# Altium schematic symbol library CHIP-Library.SCHLIB: 393 symbols (part 1 of 4)
Pins are listed as number, name and electrical type; pins without a type are passive.

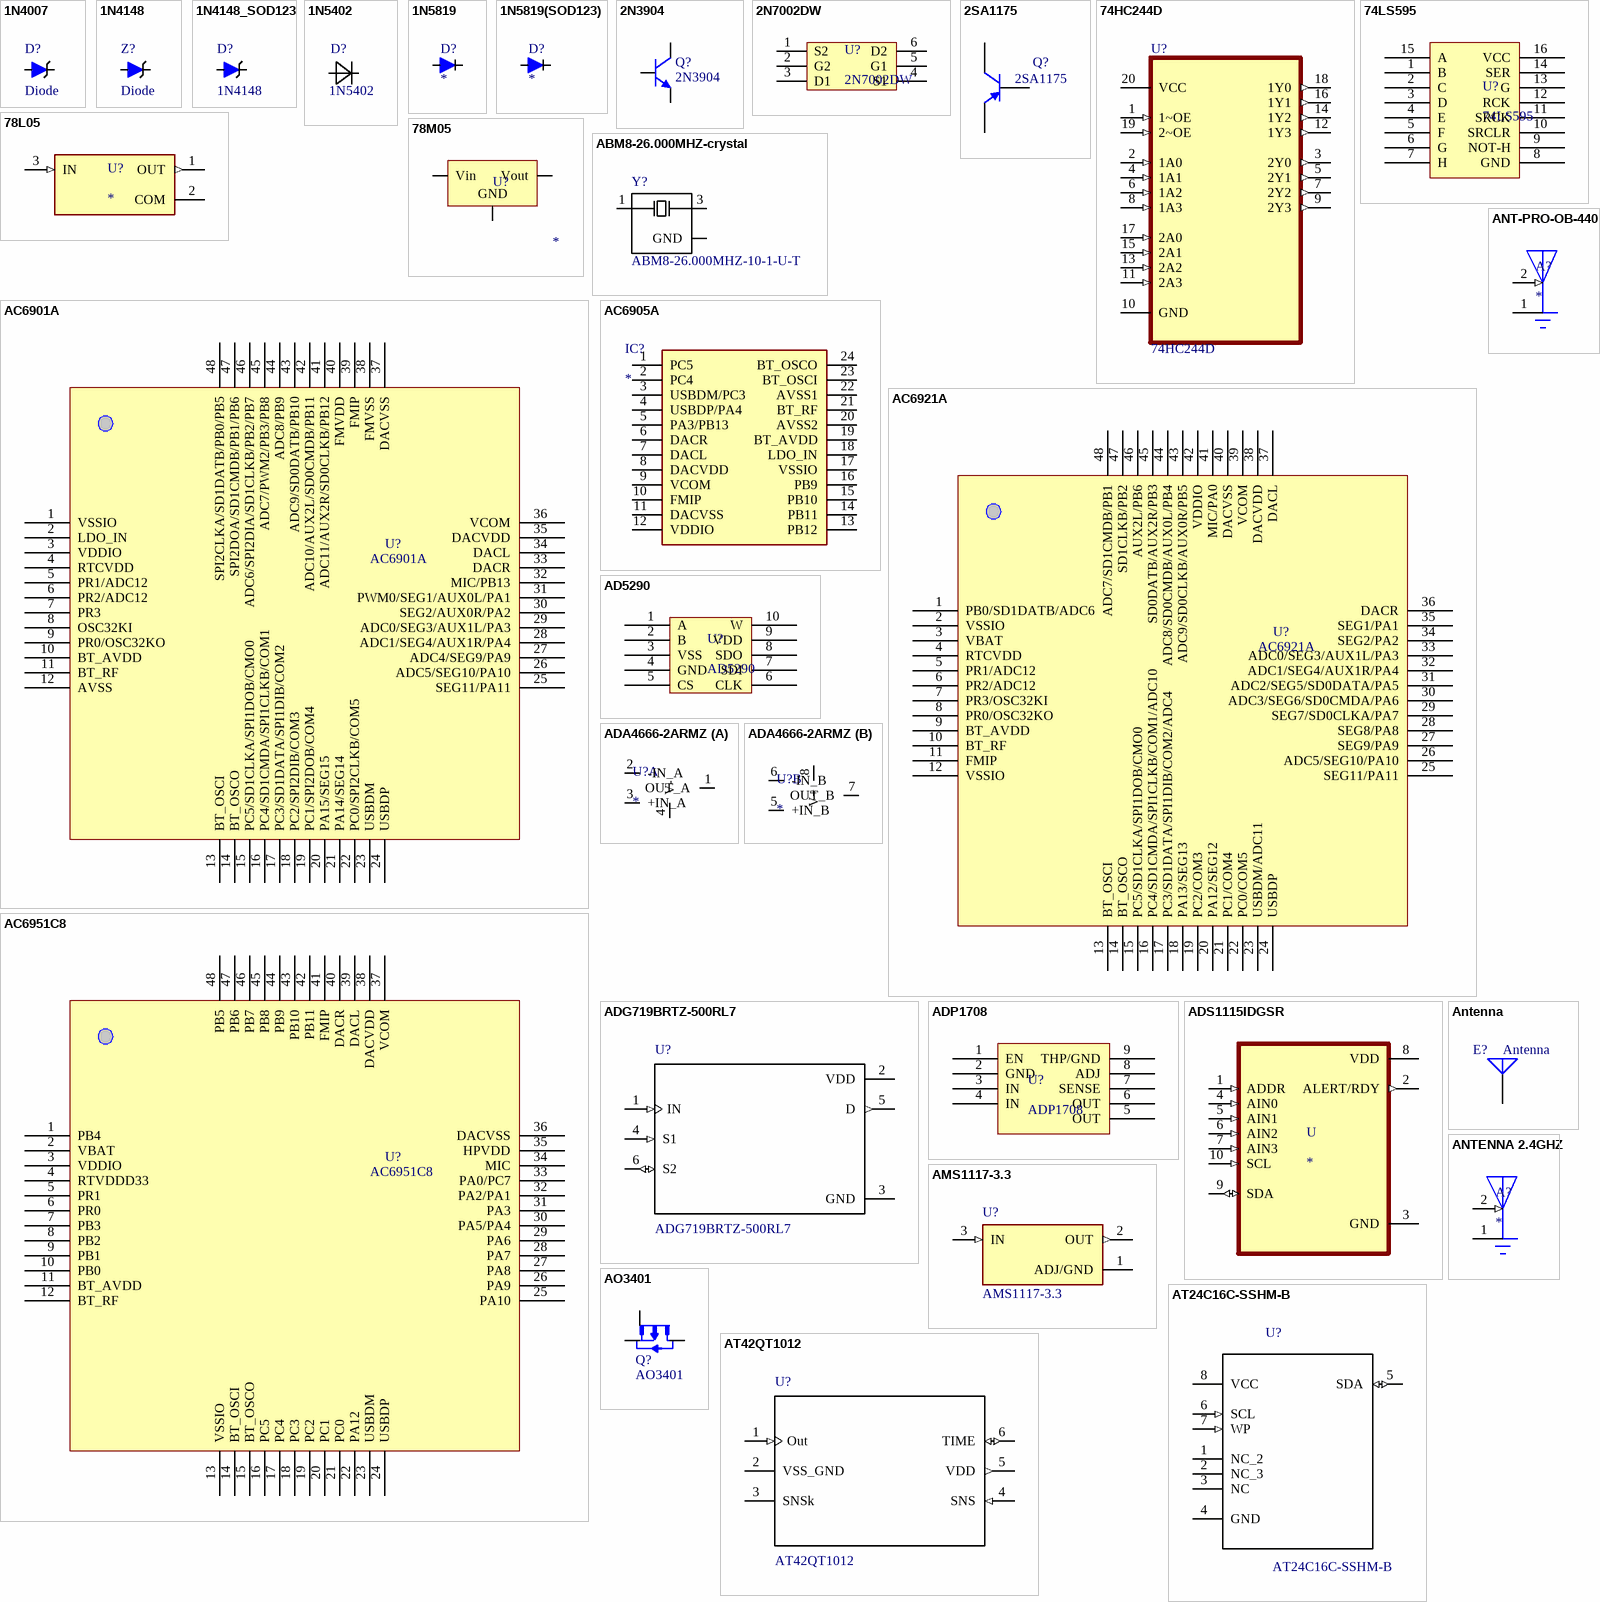
[diagram p0: symbols 1N4007 to AT42QT1012]

## 1N4007
designator D?, comment Diode
1N4007 DO-214AC; MP: EDZV12B; MF: ROHM Semiconductor; Price: None; Package: None; SnapEDA_Link: https://www.snapeda.com/parts/EDZV12B/EMI/view-part/4479349/?ref=snap; Availability: Unavailable; Value: *
footprint 1N4148
pins: 1 A, 2 C

## 1N4148
designator Z?, comment Diode
MP: EDZV12B; MF: ROHM Semiconductor; Price: None; Package: None; SnapEDA_Link: https://www.snapeda.com/parts/EDZV12B/EMI/view-part/4479349/?ref=snap; Availability: Unavailable; Value: *
footprint 1N4148
pins: 1 A, 2 C

## 1N4148_SOD123
designator D?, comment 1N4148
SOD-123 Package; MP: EDZV12B; MF: ROHM Semiconductor; Price: None; Package: None; SnapEDA_Link: https://www.snapeda.com/parts/EDZV12B/EMI/view-part/4479349/?ref=snap; Availability: Unavailable; Value: *
footprint 1N4148 SOD-123
pins: 1 A, 2 C

## 1N5402
designator D?
SnapEDA_Link: https://www.snapeda.com/parts/1N5402/NTE+Electronics/view-part/?ref=snap; Check_prices: https://www.snapeda.com/parts/1N5402/NTE+Electronics/view-part/?ref=eda; Value: *
pins: A, C

## 1N5819
designator D?
Shotkey diod SOD-523; MP: BAS716; MF: Nexperia USA; SnapEDA_Link: https://www.snapeda.com/parts/BAS716/Nexperia%20USA%20Inc./view-part/143287/?ref=snap; Price: None; Package: SOD-523 NXP Semiconductors; Arrow_Electronics-Purchase-URL: https://snapeda.com/shop?store=Arrow+Electronics&id=143287; Value: *; Availability: Unavailable
footprint 1N5819_SOD523
pins: 1 A, 2 C

## 1N5819(SOD123)
designator D?
Shotkey diod SOD-123; MP: BAS716; MF: Nexperia USA; SnapEDA_Link: https://www.snapeda.com/parts/BAS716/Nexperia%20USA%20Inc./view-part/143287/?ref=snap; Price: None; Package: SOD-523 NXP Semiconductors; Arrow_Electronics-Purchase-URL: https://snapeda.com/shop?store=Arrow+Electronics&id=143287; Value: *; Availability: Unavailable
footprint 1N5819 SOD-123
pins: 1 A, 2 C

## 2N3904
designator Q?
NPN General Purpose Amplifier; Published: 8-Jun-2000; LatestRevisionDate: 15-Jan-2003; LatestRevisionNote: PCB Footprint 'BCY-W3/D4.7' replaced; DatasheetVersion: 1997; PackageVersion: Sep-1998; PackageReference: TO-92A; Publisher: Altium Limited; PackageDescription: TO, Flat Index; 3 In-Line, Axial Leads; Body Dia. 4.5mm; Leads 0.51 x 0.48 mm (max); ComponentLink1Description: Manufacturer Link; ComponentLink1URL: http://www.fairchildsemi.com/; ComponentLink2Description: Datasheet; ComponentLink2URL: http://www.fairchildsemi.com/ds/2N%2F2N3904.pdf
footprint 2N3904 (BJT TRANSISTOR SOT23, 3 pin)
pins: 1 B, 2 E, 3 C

## 2N7002DW
designator U?
DUAL N-CHANNEL ENHANCEMENT MODE MOSFET
footprint 2N7002DW (SOT363)
pins: 1 S2, 2 G2, 3 D1, 4 S1, 5 G1, 6 D2

## 2SA1175
designator Q?
PNP General Purpose Amplifier; Published: 8-Jun-2000; LatestRevisionDate: 15-Jan-2003; LatestRevisionNote: PCB Footprint 'BCY-W3/D4.7' replaced; DatasheetVersion: 1997; PackageVersion: Sep-1998; PackageReference: TO-92A; Publisher: Altium Limited; PackageDescription: TO, Flat Index; 3 In-Line, Axial Leads; Body Dia. 4.5mm; Leads 0.51 x 0.48 mm (max); ComponentLink1Description: Manufacturer Link; ComponentLink1URL: http://www.fairchildsemi.com/; ComponentLink2Description: Datasheet; ComponentLink2URL: http://www.fairchildsemi.com/ds/2N%2F2N3906.pdf
simulation model 2N3906 (PNP)
signal-integrity model 2N3906
footprint 2SA1175 (TO, Flat Index; 3 In-Line, Axial Leads; Body Dia. 4.5mm; Leads 0.51 x 0.48 mm (max))
pins: 1 E, 2 B, 3 C

## 74HC244D
designator U?
Octal buffer/line driver 3-state; MF: {'manufacturer': u'Nexperia USA'}; MP: 74HC244D,653; Value: *; Price: None; Package: None; Availability: Unavailable
footprint Model Name (Footprint not found)
footprint 74HC244D (Octal buffer/line driver - SO20 Package)
pins: 1 1~OE (in), 2 1A0 (in), 3 2Y0 (out), 4 1A1 (in), 5 2Y1 (out), 6 1A2 (in), 7 2Y2 (out), 8 1A3 (in), 9 2Y3 (out), 10 GND, 11 2A3 (in), 12 1Y3 (out), 13 2A2 (in), 14 1Y2 (out), 15 2A1 (in), 16 1Y1 (out), 17 2A0 (in), 18 1Y0 (out), 19 2~OE (in), 20 VCC (power)

## 74LS595
designator U?
footprint D016_N (16-Pin Small Outline Integrated Circuit 1.27 mm Pitch, IPC Medium Density)
footprint J016D (DIP; 16 Leads; Row Spacing 7.62 mm; Pitch 2.54 mm)
pins: 1 B, 2 C, 3 D, 4 E, 5 F, 6 G, 7 H, 8 GND, 9 NOT-H, 10 SRCLR, 11 SRCK, 12 RCK, 13 G, 14 SER, 15 A, 16 VCC

## 78L05
designator U?
Linear Voltage Regulator IC 1 Output 100mA SOT-89-3; MP: UA78L05CPK; MF: Texas Instruments; Availability: Unavailable; Package: SOT-89-3 Texas Instruments; SnapEDA_Link: https://www.snapeda.com/parts/UA78L05CPK/Texas%20Instruments/view-part/512891/?ref=snap; Value: *; Price: None
footprint 78L05
pins: 1 OUT (out), 2 COM (power), 3 IN (in)

## 78M05
designator U?
Voltage Regulator L7805 DPAK; Published: 24-Mar-1999; LatestRevisionDate: 29-May-2009; LatestRevisionNote: IPC-7351 Footprint Added.; PackageReference: D2PAK; Publisher: Altium Limited; PackageDescription: 3-Pin Transistor Outline Package 2.54 mm Pitch, 15.1 mm Lead Span
footprint 78M05 (D-PAK)
pins: 1 Vin, 2 GND, 3 Vout

## ABM8-26.000MHZ-crystal
designator Y?, comment ABM8-26.000MHZ-10-1-U-T
26MHz Â±10ppm Crystal 10pF 50 Ohms 4-SMD, No Lead; MF: Abracon; Digi-Key_Part_Number: 300-8230-1-ND; SnapEDA_Link: https://www.snapeda.com/parts/ABM8-26.000MHZ-10-1-U-T/Abracon%20LLC/view-part/356267/?ref=snap; Digi-Key_Purchase_URL: https://www.digikey.com/product-detail/en/abracon-llc/ABM8-26.000MHZ-10-1-U-T/300-8230-1-ND/687923?utm_source=snapeda&utm_medium=aggregator&utm_campaign=symbol; MP: ABM8-26.000MHZ-10-1-U-T; Package: SMD-4 Abracon; Value: *
footprint *OSCSC320X250X100N
pins: 1, 2 GND (power), 3, 4 GND (power)

## AC6901A
designator U?
footprint AC6901a
pins: 1 VSSIO, 2 LDO_IN, 3 VDDIO, 4 RTCVDD, 5 PR1/ADC12, 6 PR2/ADC12, 7 PR3, 8 OSC32KI, 9 PR0/OSC32KO, 10 BT_AVDD, 11 BT_RF, 12 AVSS, 13 BT_OSCI, 14 BT_OSCO, 15 PC5/SD1CLKA/SPI1DOB/CMO0, 16 PC4/SD1CMDA/SPI1CLKB/COM1, 17 PC3/SD1DATA/SPI1DIB/COM2, 18 PC2/SPI2DIB/COM3, 19 PC1/SPI2DOB/COM4, 20 PA15/SEG15, 21 PA14/SEG14, 22 PC0/SPI2CLKB/COM5, 23 USBDM, 24 USBDP, 25 SEG11/PA11, 26 ADC5/SEG10/PA10, 27 ADC4/SEG9/PA9, 28 ADC1/SEG4/AUX1R/PA4, 29 ADC0/SEG3/AUX1L/PA3, 30 SEG2/AUX0R/PA2, 31 PWM0/SEG1/AUX0L/PA1, 32 MIC/PB13, 33 DACR, 34 DACL, 35 DACVDD, 36 VCOM, 37 DACVSS, 38 FMVSS, 39 FMIP, 40 FMVDD, 41 ADC11/AUX2R/SD0CLKB/PB12, 42 ADC10/AUX2L/SD0CMDB/PB11, 43 ADC9/SD0DATB/PB10, 44 ADC8/PB9, 45 ADC7/PWM2/PB3/PB8, 46 ADC6/SPI2DIA/SD1CLKB/PB2/PB7, 47 SPI2DOA/SD1CMDB/PB1/PB6, 48 SPI2CLKA/SD1DATB/PB0/PB5

## AC6905A
designator IC?
Integrated Circuit; Manufacturer_Name: JIELI; Manufacturer_Part_Number: AC6905A; Datasheet Link: http://img005.hc360.cn/k1/M09/34/E3/wKhQwFmw58KEPsWjAAAAAJGE4z0447.pdf; Height: 1.8mm
footprint AC6905
pins: 1 PC5, 2 PC4, 3 USBDM/PC3, 4 USBDP/PA4, 5 PA3/PB13, 6 DACR, 7 DACL, 8 DACVDD, 9 VCOM, 10 FMIP, 11 DACVSS, 12 VDDIO, 13 PB12, 14 PB11, 15 PB10, 16 PB9, 17 VSSIO, 18 LDO_IN, 19 BT_AVDD, 20 AVSS2, 21 BT_RF, 22 AVSS1, 23 BT_OSCI, 24 BT_OSCO

## AC6921A
designator U?
footprint AC6921a
pins: 1 PB0/SD1DATB/ADC6, 2 VSSIO, 3 VBAT, 4 RTCVDD, 5 PR1/ADC12, 6 PR2/ADC12, 7 PR3/OSC32KI, 8 PR0/OSC32KO, 9 BT_AVDD, 10 BT_RF, 11 FMIP, 12 VSSIO, 13 BT_OSCI, 14 BT_OSCO, 15 PC5/SD1CLKA/SPI1DOB/CMO0, 16 PC4/SD1CMDA/SPI1CLKB/COM1/ADC10, 17 PC3/SD1DATA/SPI1DIB/COM2/ADC4, 18 PA13/SEG13, 19 PC2/COM3, 20 PA12/SEG12, 21 PC1/COM4, 22 PC0/COM5, 23 USBDM/ADC11, 24 USBDP, 25 SEG11/PA11, 26 ADC5/SEG10/PA10, 27 SEG9/PA9, 28 SEG8/PA8, 29 SEG7/SD0CLKA/PA7, 30 ADC3/SEG6/SD0CMDA/PA6, 31 ADC2/SEG5/SD0DATA/PA5, 32 ADC1/SEG4/AUX1R/PA4, 33 ADC0/SEG3/AUX1L/PA3, 34 SEG2/PA2, 35 SEG1/PA1, 36 DACR, 37 DACL, 38 DACVDD, 39 VCOM, 40 DACVSS, 41 MIC/PA0, 42 VDDIO, 43 ADC9/SD0CLKB/AUX0R/PB5, 44 ADC8/SD0CMDB/AUX0L/PB4, 45 SD0DATB/AUX2R/PB3, 46 AUX2L/PB6, 47 SD1CLKB/PB2, 48 ADC7/SD1CMDB/PB1

## AC6951C8
designator U?
footprint AC6951C8 (LQFP48)
pins: 1 PB4, 2 VBAT, 3 VDDIO, 4 RTVDDD33, 5 PR1, 6 PR0, 7 PB3, 8 PB2, 9 PB1, 10 PB0, 11 BT_AVDD, 12 BT_RF, 13 VSSIO, 14 BT_OSCI, 15 BT_OSCO, 16 PC5, 17 PC4, 18 PC3, 19 PC2, 20 PC1, 21 PC0, 22 PA12, 23 USBDM, 24 USBDP, 25 PA10, 26 PA9, 27 PA8, 28 PA7, 29 PA6, 30 PA5/PA4, 31 PA3, 32 PA2/PA1, 33 PA0/PC7, 34 MIC, 35 HPVDD, 36 DACVSS, 37 VCOM, 38 DACVDD, 39 DACL, 40 DACR, 41 FMIP, 42 PB11, 43 PB10, 44 PB9, 45 PB8, 46 PB7, 47 PB6, 48 PB5

## AD5290
designator U?
Digital Potentiometer
footprint MSOP10 (MSOP 10 pitch 0.5mm)
pins: 1 A, 2 B, 3 VSS, 4 GND, 5 CS, 6 CLK, 7 SDI, 8 SDO, 9 VDD, 10 W

## ADA4666-2ARMZ
designator U?
Integrated Circuit; Manufacturer_Name: Analog Devices; Manufacturer_Part_Number: ADA4666-2ARMZ; Datasheet Link: https://docs-emea.rs-online.com/webdocs/1284/0900766b81284aba.pdf; Height: 1.1mm; Arrow Part Number: ADA4666-2ARMZ; Arrow Price/Stock: https://www.arrow.com/en/products/ada4666-2armz/analog-devices; Mouser Part Number: 584-ADA4666-2ARMZ; Mouser Price/Stock: https://www.mouser.com/Search/Refine.aspx?Keyword=584-ADA4666-2ARMZ
footprint ADA4666-2ARMZ
part A pins: 1 OUT_A, 2 -IN_A, 3 +IN_A, 4 V- (power)
part B pins: 5 +IN_B, 6 -IN_B, 7 OUT_B, 8 V+

## ADG719BRTZ-500RL7
designator U?
Analogue Switch, SPDT, 1, 4 ohm, 1.8V to 5.5V, SOT-23, 6; MF: Analog Devices; Package: SOT-23-6 Analog Devices; Availability: Unavailable; MP: ADG719BRTZ-500RL7; Price: None; SnapEDA_Link: https://www.snapeda.com/parts/ADG719BRTZ-500RL7/Analog%20Devices%20Inc./view-part/?ref=snap; Value: *
footprint ADG719
pins: 1 IN (in), 2 VDD (power), 3 GND (power), 4 S1 (in), 5 D (out), 6 S2 (io)

## ADP1708
designator U?
1 A, Low Dropout,  CMOS Linear Regulator
footprint SOIC 8 - THPAD (8-Pin Small Outline Integrated Circuit 1.27 mm Pitch, IPC Medium Density)
pins: 1 EN, 2 GND, 3 IN, 4 IN, 5 OUT, 6 OUT, 7 SENSE, 8 ADJ, 9 THP/GND

## ADS1115IDGSR
designator U
16-Bit 860SPS 4-Ch Delta-Sigma ADC With PGA, Oscillator, Vref, Comparator, and I2C 10-VSSOP -40 to 125; MF: Texas Instruments; MP: ADS1115IDGSR; SnapEDA_Link: https://www.snapeda.com/parts/ADS1115IDGSR/Texas%20Instruments/view-part/45903/?ref=snap; Value: *; Texas_Instruments-Purchase-URL: https://snapeda.com/shop?store=Texas+Instruments&id=45903; Price: None; Availability: Good; Mouser-Purchase-URL: https://snapeda.com/shop?store=Mouser&id=45903; Package: VSSOP-10 Texas Instruments; DigiKey-Purchase-URL: https://snapeda.com/shop?store=DigiKey&id=45903
footprint ADS1115_S
pins: 1 ADDR (in), 2 ALERT/RDY (out), 3 GND (power), 4 AIN0 (in), 5 AIN1 (in), 6 AIN2 (in), 7 AIN3 (in), 8 VDD (power), 9 SDA (io), 10 SCL (in)

## AMS1117-3.3
designator U?
Sot223/Pkg 1-Amp 3.3-Volt Low Drop Out Voltage Regulatator; MF: Advanced Monolithic Systems; MP: AMS1117-3.3; SnapEDA_Link: https://www.snapeda.com/parts/AMS1117-3.3/Advanced%20Monolithic%20Systems/view-part/?ref=snap; Availability: Unavailable; Package: None; Price: None; Value: *
footprint AMS1117
pins: 1 ADJ/GND (power), 2 OUT (out), 3 IN (in)

## ANT-PRO-OB-440
designator A?
2.4GHz Bluetooth, WirelessHART, WLAN, Zigbeeâ„¢ Stamped Metal RF Antenna 2.4GHz ~ 2.5GHz Solder Surface Mount; MP: PRO-OB-440; MF: Proant AB; SnapEDA_Link: https://www.snapeda.com/parts/PRO-OB-440/Proant%20AB/view-part/2307534/?ref=snap; Digi-Key_Purchase_URL: https://www.digikey.com/product-detail/en/proant-ab/PRO-OB-440/1532-1001-1-ND/4895684?utm_source=snapeda&utm_medium=aggregator&utm_campaign=symbol; Value: *; Package: None; Digi-Key_Part_Number: 1532-1001-1-ND
footprint ANT_PRO-OB-440
pins: 1 GND (power), 2 FEED (in)

## Antenna
designator E?
Generic Antenna; Published: 24-Mar-1999; LatestRevisionDate: 17-Jul-2002; LatestRevisionNote: Re-released for DXP Platform.; PackageReference: PIN1; Publisher: Altium Limited
footprint Antenna
pins: 1 A

## ANTENNA 2.4GHZ
designator A?
ESP32 ANTENNA; MP: PRO-OB-440; MF: Proant AB; SnapEDA_Link: https://www.snapeda.com/parts/PRO-OB-440/Proant%20AB/view-part/2307534/?ref=snap; Digi-Key_Purchase_URL: https://www.digikey.com/product-detail/en/proant-ab/PRO-OB-440/1532-1001-1-ND/4895684?utm_source=snapeda&utm_medium=aggregator&utm_campaign=symbol; Value: *; Package: None; Digi-Key_Part_Number: 1532-1001-1-ND
footprint ANTENNA 2.4GHZ (ESP32 ANTENNA)
footprint ANTENNA 2.4GHZ - TI (TI ANTENNA)
footprint ANTENNA 2.4GHZ - NXP (ESP32 ANTENNA)
footprint ANTENNA 2.4GHZ - NXP 2 (ESP32 ANTENNA)
pins: 1 GND (power), 2 FEED (in)

## AO3401
designator Q?
P-Channel 30V 4A _Ta_ 1.4W _Ta_ Surface Mount SOT-23-3; MF: Alpha & Omega Semiconductor; Value: *; MP: AO3401; SnapEDA_Link: https://www.snapeda.com/parts/AO3401/Alpha%20%26%20Omega%20Semiconductor/view-part/4592622/?ref=snap; Availability: Unavailable; Package: SOT-23-3 Alpha &amp; Omega Semiconductor; Price: None
footprint AO3401 (SOT23, 3 pin)
pins: 1 G, 2 S, 3 D

## AT24C16C-SSHM-B
designator U?
AT24C16C Series 16 Kb _2 K x 8_ 1.7 V I2C-Compatible Serial EEPROM - SOIC-8; MF: Microchip; Price: None; Package: SOIC-8 Microchip; Availability: Unavailable; SnapEDA_Link: https://www.snapeda.com/parts/AT24C16C-SSHM-B/Microchip/view-part/?ref=snap; MP: AT24C16C-SSHM-B; Value: *
footprint *SOIC127P600X175-8N
pins: 1 NC_2, 2 NC_3, 3 NC, 4 GND, 5 SDA (io), 6 SCL (in), 7 WP (in), 8 VCC (power)

## AT42QT1012
designator U?
capacitance touch sensor; MP: ADG719BRTZ-500RL7; MF: Analog Devices; Package: SOT-23-6 Analog Devices; Availability: Unavailable; Price: None; SnapEDA_Link: https://www.snapeda.com/parts/ADG719BRTZ-500RL7/Analog%20Devices%20Inc./view-part/?ref=snap; Value: *
footprint AT42QT1012
pins: 1 Out (in), 2 VSS_GND (power), 3 SNSk (power), 4 SNS (in), 5 VDD (out), 6 TIME (io)

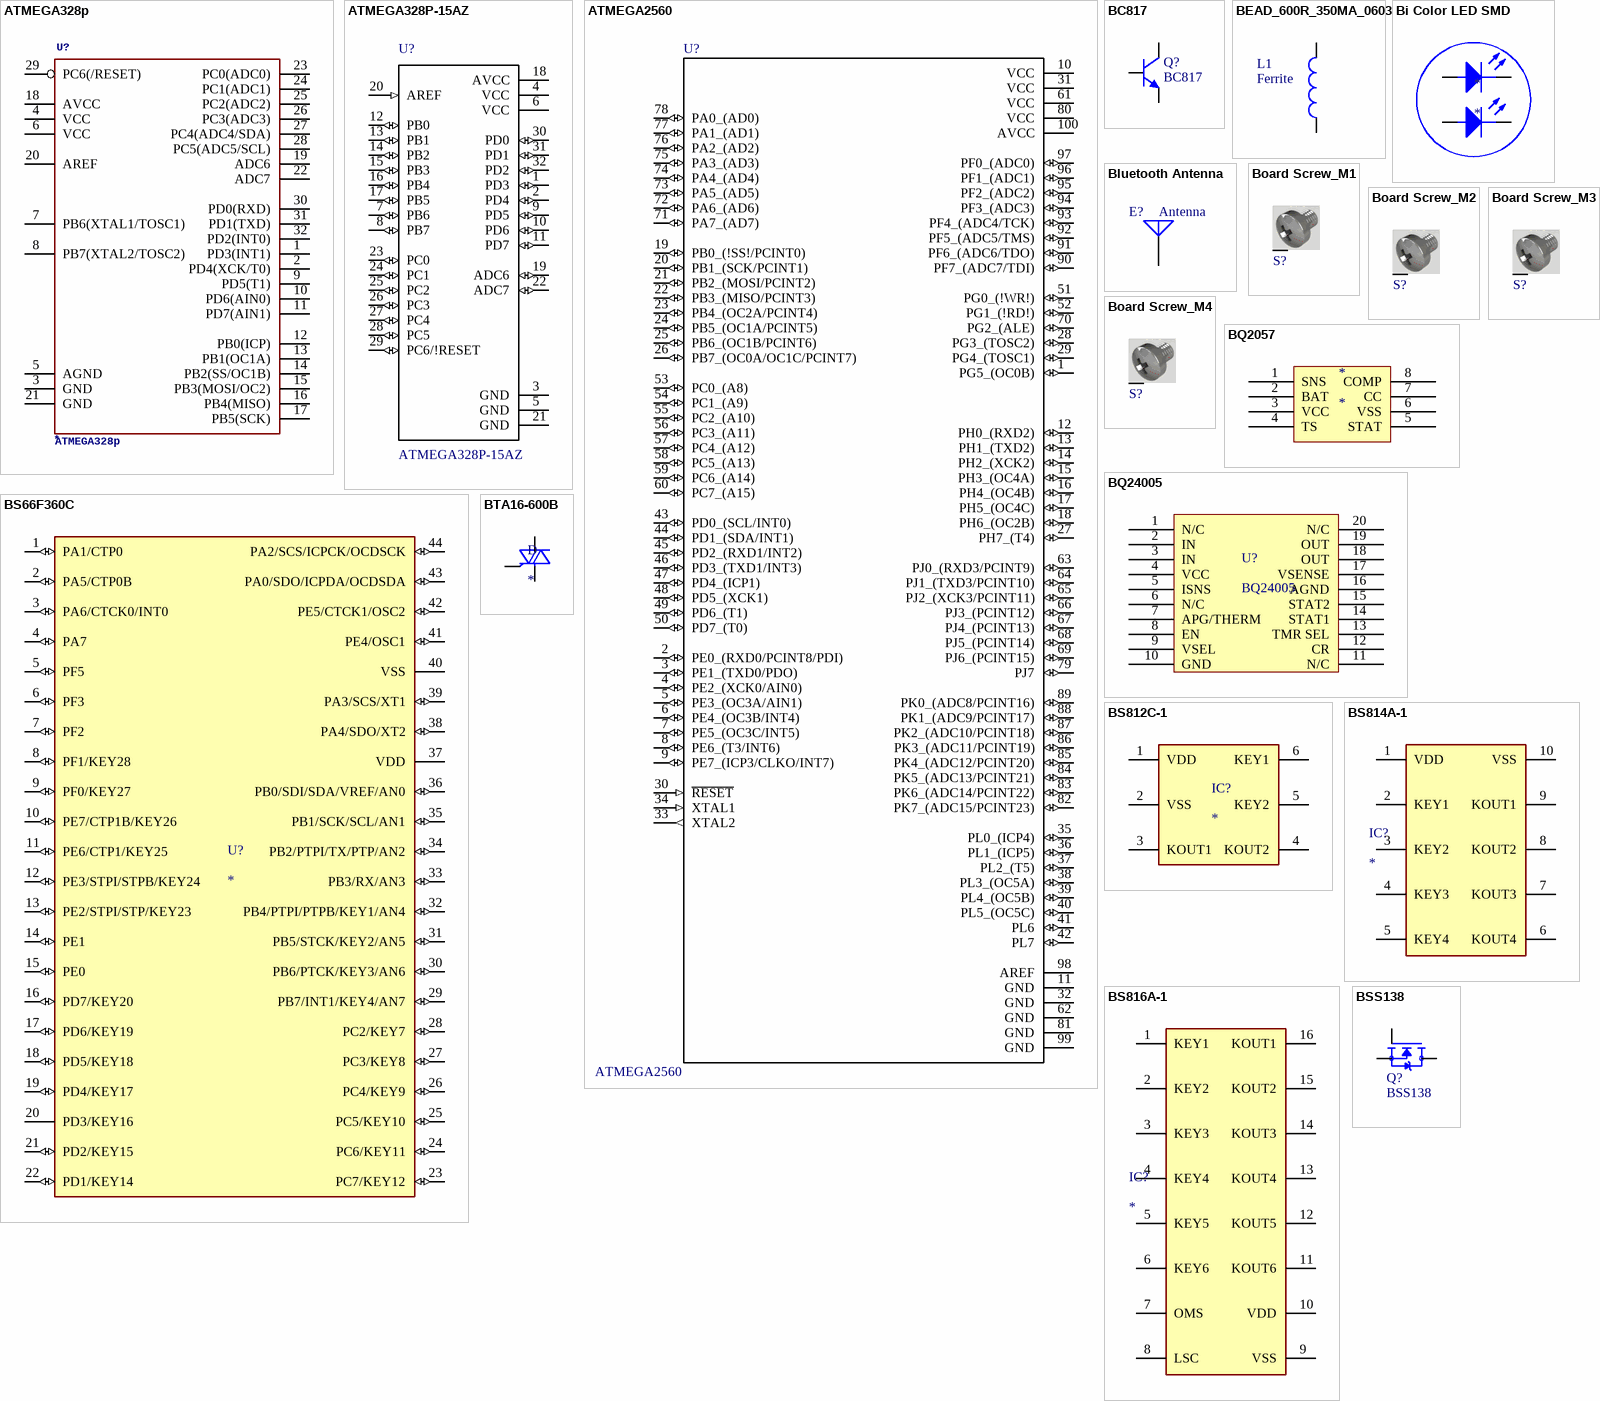
[diagram p1: symbols ATMEGA328p to BTA16-600B]

## ATMEGA328p
designator U?
NAME: *
footprint Atmega328p
pins: 1 PD3(INT1), 2 PD4(XCK/T0), 3 GND, 4 VCC, 5 AGND, 6 VCC, 7 PB6(XTAL1/TOSC1), 8 PB7(XTAL2/TOSC2), 9 PD5(T1), 10 PD6(AIN0), 11 PD7(AIN1), 12 PB0(ICP), 13 PB1(OC1A), 14 PB2(SS/OC1B), 15 PB3(MOSI/OC2), 16 PB4(MISO), 17 PB5(SCK), 18 AVCC, 19 ADC6, 20 AREF, 21 GND, 22 ADC7, 23 PC0(ADC0), 24 PC1(ADC1), 25 PC2(ADC2), 26 PC3(ADC3), 27 PC4(ADC4/SDA), 28 PC5(ADC5/SCL), 29 PC6(/RESET), 30 PD0(RXD), 31 PD1(TXD), 32 PD2(INT0)

## ATMEGA328P-15AZ
designator U?
MCU 8-bit ATmega AVR RISC 32KB Flash 3.3V/5V Automotive 32-Pin TQFP; MF: Microchip; SnapEDA_Link: https://www.snapeda.com/parts/ATMEGA328P-15AZ/Microchip/view-part/?ref=snap; Availability: Unavailable; Package: TQFP-32 Microchip; MP: ATMEGA328P-15AZ; Price: None; Value: *
footprint Atmega328p
pins: 1 PD3 (io), 2 PD4 (io), 3 GND (power), 4 VCC (power), 5 GND (power), 6 VCC (power), 7 PB6 (io), 8 PB7 (io), 9 PD5 (io), 10 PD6 (io), 11 PD7 (io), 12 PB0 (io), 13 PB1 (io), 14 PB2 (io), 15 PB3 (io), 16 PB4 (io), 17 PB5 (io), 18 AVCC (power), 19 ADC6 (io), 20 AREF (in), 21 GND (power), 22 ADC7 (io), 23 PC0 (io), 24 PC1 (io), 25 PC2 (io), 26 PC3 (io), 27 PC4 (io), 28 PC5 (io), 29 PC6/!RESET (io), 30 PD0 (io), 31 PD1 (io), 32 PD2 (io)

## ATMEGA2560
designator U?
Semiconductors and Actives, ic, Microprocessors, mcu, Microcontrollers; MF: Microchip; Price: None; SnapEDA_Link: https://www.snapeda.com/parts/ATMEGA2560/Microchip/view-part/?ref=snap; Availability: Unavailable; MP: ATMEGA2560; Package: TQFP-100 Microchip; Value: *
footprint Atmega2560
pins: 1 PG5_(OC0B) (io), 2 PE0_(RXD0/PCINT8/PDI) (io), 3 PE1_(TXD0/PDO) (io), 4 PE2_(XCK0/AIN0) (io), 5 PE3_(OC3A/AIN1) (io), 6 PE4_(OC3B/INT4) (io), 7 PE5_(OC3C/INT5) (io), 8 PE6_(T3/INT6) (io), 9 PE7_(ICP3/CLKO/INT7) (io), 10 VCC (power), 11 GND (power), 12 PH0_(RXD2) (io), 13 PH1_(TXD2) (io), 14 PH2_(XCK2) (io), 15 PH3_(OC4A) (io), 16 PH4_(OC4B) (io), 17 PH5_(OC4C) (io), 18 PH6_(OC2B) (io), 19 PB0_(!SS!/PCINT0) (io), 20 PB1_(SCK/PCINT1) (io), 21 PB2_(MOSI/PCINT2) (io), 22 PB3_(MISO/PCINT3) (io), 23 PB4_(OC2A/PCINT4) (io), 24 PB5_(OC1A/PCINT5) (io), 25 PB6_(OC1B/PCINT6) (io), 26 PB7_(OC0A/OC1C/PCINT7) (io), 27 PH7_(T4) (io), 28 PG3_(TOSC2) (io), 29 PG4_(TOSC1) (io), 30 ~{RESET} (in), 31 VCC (power), 32 GND (power), 33 XTAL2 (out), 34 XTAL1 (in), 35 PL0_(ICP4) (io), 36 PL1_(ICP5) (io), 37 PL2_(T5) (io), 38 PL3_(OC5A) (io), 39 PL4_(OC5B) (io), 40 PL5_(OC5C) (io), 41 PL6 (io), 42 PL7 (io), 43 PD0_(SCL/INT0) (io), 44 PD1_(SDA/INT1) (io), 45 PD2_(RXD1/INT2) (io), 46 PD3_(TXD1/INT3) (io), 47 PD4_(ICP1) (io), 48 PD5_(XCK1) (io), 49 PD6_(T1) (io), 50 PD7_(T0) (io), 51 PG0_(!WR!) (io), 52 PG1_(!RD!) (io), 53 PC0_(A8) (io), 54 PC1_(A9) (io), 55 PC2_(A10) (io), 56 PC3_(A11) (io), 57 PC4_(A12) (io), 58 PC5_(A13) (io), 59 PC6_(A14) (io), 60 PC7_(A15) (io), 61 VCC (power), 62 GND (power), 63 PJ0_(RXD3/PCINT9) (io), 64 PJ1_(TXD3/PCINT10) (io), 65 PJ2_(XCK3/PCINT11) (io), 66 PJ3_(PCINT12) (io), 67 PJ4_(PCINT13) (io), 68 PJ5_(PCINT14) (io), 69 PJ6_(PCINT15) (io), 70 PG2_(ALE) (io), 71 PA7_(AD7) (io), 72 PA6_(AD6) (io), 73 PA5_(AD5) (io), 74 PA4_(AD4) (io), 75 PA3_(AD3) (io), 76 PA2_(AD2) (io), 77 PA1_(AD1) (io), 78 PA0_(AD0) (io), 79 PJ7 (io), 80 VCC (power), 81 GND (power), 82 PK7_(ADC15/PCINT23) (io), 83 PK6_(ADC14/PCINT22) (io), 84 PK5_(ADC13/PCINT21) (io), 85 PK4_(ADC12/PCINT20) (io), 86 PK3_(ADC11/PCINT19) (io), 87 PK2_(ADC10/PCINT18) (io), 88 PK1_(ADC9/PCINT17) (io), 89 PK0_(ADC8/PCINT16) (io), 90 PF7_(ADC7/TDI) (io), 91 PF6_(ADC6/TDO) (io), 92 PF5_(ADC5/TMS) (io), 93 PF4_(ADC4/TCK) (io), 94 PF3_(ADC3) (io), 95 PF2_(ADC2) (io), 96 PF1_(ADC1) (io), 97 PF0_(ADC0) (io), 98 AREF (power), 99 GND (power), 100 AVCC (power)

## BC817
designator Q?
NPN General Purpose Amplifier BJT; Published: 8-Jun-2000; LatestRevisionDate: 15-Jan-2003; LatestRevisionNote: PCB Footprint 'BCY-W3/D4.7' replaced; DatasheetVersion: 1997; PackageVersion: Sep-1998; PackageReference: TO-92A; Publisher: Altium Limited; PackageDescription: TO, Flat Index; 3 In-Line, Axial Leads; Body Dia. 4.5mm; Leads 0.51 x 0.48 mm (max); ComponentLink1Description: Manufacturer Link; ComponentLink1URL: http://www.fairchildsemi.com/; ComponentLink2Description: Datasheet; ComponentLink2URL: http://www.fairchildsemi.com/ds/2N%2F2N3904.pdf
footprint BC817 (SOT23-3)
pins: 1 B, 2 E, 3 C

## BEAD_600R_350MA_0603
designator L1, comment Ferrite
Bead,600R,350mA,0603,FCM1608KF-601T03,Tai-tech; Manuf_2: TDK; Manuf_Part_2: MPZ1608S300A; Value: 100uH; Comment_1: bead,30R,5A,0603,MPZ1608S300A,TDK; Revision: July-2002: Re-released for DXP Platform.; Manuf_Part_1: FCM1608KF-601T03; Order: FCM1608KF-601T03; Manuf_1: Tai-tech; ECCN_US/EU: n/a
footprint BEAD_600R_350MA_0603
pins: 1, 2

## Bi Color LED SMD
designator *
footprint BI COLOR LED
pins: 1 A, 2 K, 3 A, 4 K

## Bluetooth Antenna
designator E?, comment Antenna
Generic Antenna; Published: 24-Mar-1999; LatestRevisionDate: 17-Jul-2002; LatestRevisionNote: Re-released for DXP Platform.; PackageReference: PIN1; Publisher: Altium Limited
footprint Bluetooth antenna
pins: 1 A

## Board Screw_M1
designator S?, comment M1  (value not drawn)
Board Screw With Spacer; فروشگاه: خرید خارج-جوان الکترونیک
footprint Board Screw 3mm
pins: S

## Board Screw_M2
designator S?, comment M2  (value not drawn)
Board Screw With Spacer; فروشگاه: خرید خارج-جوان الکترونیک
pins: S

## Board Screw_M3
designator S?, comment M3  (value not drawn)
Board Screw With Spacer; فروشگاه: خرید خارج-جوان الکترونیک
footprint Board Screw 3mm
pins: S

## Board Screw_M4
designator S?, comment M4  (value not drawn)
Board Screw With Spacer; فروشگاه: خرید خارج-جوان الکترونیک
pins: S

## BQ2057
designator *
footprint D008_N (8-Pin Small Outline Integrated Circuit 1.27 mm Pitch, IPC Medium Density)
pins: 1 SNS, 2 BAT, 3 VCC, 4 TS, 5 STAT, 6 VSS, 7 CC, 8 COMP

## BQ24005
designator U?
TWO-CELL Li-ION CHARGE MANAGEMENT IC; Company: Texas Instruments
footprint PW020 (Shrink Small Outline; 20 Leads; Body Width 4.4 mm; Pitch 0.65 mm)
pins: 1 N/C, 2 IN, 3 IN, 4 VCC, 5 ISNS, 6 N/C, 7 APG/THERM, 8 EN, 9 VSEL, 10 GND, 11 N/C, 12 CR, 13 TMR SEL, 14 STAT1, 15 STAT2, 16 AGND, 17 VSENSE, 18 OUT, 19 OUT, 20 N/C

## BS66F360C
designator U?
Integrated Circuit; Manufacturer_Name: Holtek; Manufacturer_Part_Number: BS66F360; Datasheet Link: https://4donline.ihs.com/images/VipMasterIC/IC/HOLS/HOLS-S-A0013887567/HOLS-S-A0013919017-1.pdf?hkey=EF798316E3902B6ED9A73243A3159BB0; Height: 1.6mm
footprint BS66F360C (QFP80P1200X1200X160-44N)
pins: 1 PA1/CTP0 (io), 2 PA5/CTP0B (io), 3 PA6/CTCK0/INT0 (io), 4 PA7 (io), 5 PF5 (io), 6 PF3 (io), 7 PF2 (io), 8 PF1/KEY28 (io), 9 PF0/KEY27 (io), 10 PE7/CTP1B/KEY26 (io), 11 PE6/CTP1/KEY25 (io), 12 PE3/STPI/STPB/KEY24 (io), 13 PE2/STPI/STP/KEY23 (io), 14 PE1 (io), 15 PE0 (io), 16 PD7/KEY20 (io), 17 PD6/KEY19 (io), 18 PD5/KEY18 (io), 19 PD4/KEY17 (io), 20 PD3/KEY16, 21 PD2/KEY15 (io), 22 PD1/KEY14 (io), 23 PC7/KEY12 (io), 24 PC6/KEY11 (io), 25 PC5/KEY10 (io), 26 PC4/KEY9 (io), 27 PC3/KEY8 (io), 28 PC2/KEY7 (io), 29 PB7/INT1/KEY4/AN7 (io), 30 PB6/PTCK/KEY3/AN6 (io), 31 PB5/STCK/KEY2/AN5 (io), 32 PB4/PTPI/PTPB/KEY1/AN4 (io), 33 PB3/RX/AN3 (io), 34 PB2/PTPI/TX/PTP/AN2 (io), 35 PB1/SCK/SCL/AN1 (io), 36 PB0/SDI/SDA/VREF/AN0 (io), 37 VDD (power), 38 PA4/SDO/XT2 (io), 39 PA3/SCS/XT1 (io), 40 VSS (power), 41 PE4/OSC1 (io), 42 PE5/CTCK1/OSC2 (io), 43 PA0/SDO/ICPDA/OCDSDA (io), 44 PA2/SCS/ICPCK/OCDSCK (io)

## BS812C-1
designator IC?
Integrated Circuit; Manufacturer_Name: Holtek; Manufacturer_Part_Number: BS814A-1; Datasheet Link: https://www.holtek.com/documents/10179/116711/BS81xA-xv150.pdf; Height: 1.1mm
footprint BS812C-1 (SOT23-6)
pins: 1 VDD, 2 VSS, 3 KOUT1, 4 KOUT2, 5 KEY2, 6 KEY1

## BS814A-1
designator IC?
Integrated Circuit; Manufacturer_Name: Holtek; Manufacturer_Part_Number: BS814A-1; Datasheet Link: https://www.holtek.com/documents/10179/116711/BS81xA-xv150.pdf; Height: 1.1mm
footprint BS814A-1
pins: 1 VDD, 2 KEY1, 3 KEY2, 4 KEY3, 5 KEY4, 6 KOUT4, 7 KOUT3, 8 KOUT2, 9 KOUT1, 10 VSS

## BS816A-1
designator IC?
6_ch touch sensor 16-pin NSOP; Manufacturer_Name: Holtek; Manufacturer_Part_Number: BS816A-1; Datasheet Link: https://www.holtek.com/documents/10179/116711/BS81xA-xv150.pdf; Height: 1.75mm
footprint BS816A-1
pins: 1 KEY1, 2 KEY2, 3 KEY3, 4 KEY4, 5 KEY5, 6 KEY6, 7 OMS, 8 LSC, 9 VSS, 10 VDD, 11 KOUT6, 12 KOUT5, 13 KOUT4, 14 KOUT3, 15 KOUT2, 16 KOUT1

## BSS138
designator Q?
footprint BSS138 (SOT23-3)
pins: 1 G, 2 S, 3 D

## BTA16-600B
designator D
TRIAC Alternistor - Snubberless 600V 16A Through Hole TO-220AB; MP: BTA16/600B; MF: STMicroelectronics; Package: TO-220 Comset Semiconductors; Availability: Unavailable; SnapEDA_Link: https://www.snapeda.com/parts/BTA16/600B/STMicroelectronics/view-part/554113/?ref=snap; Price: None; Value: *
footprint BTA16
pins: 1 A1, 2 A2, 3 G

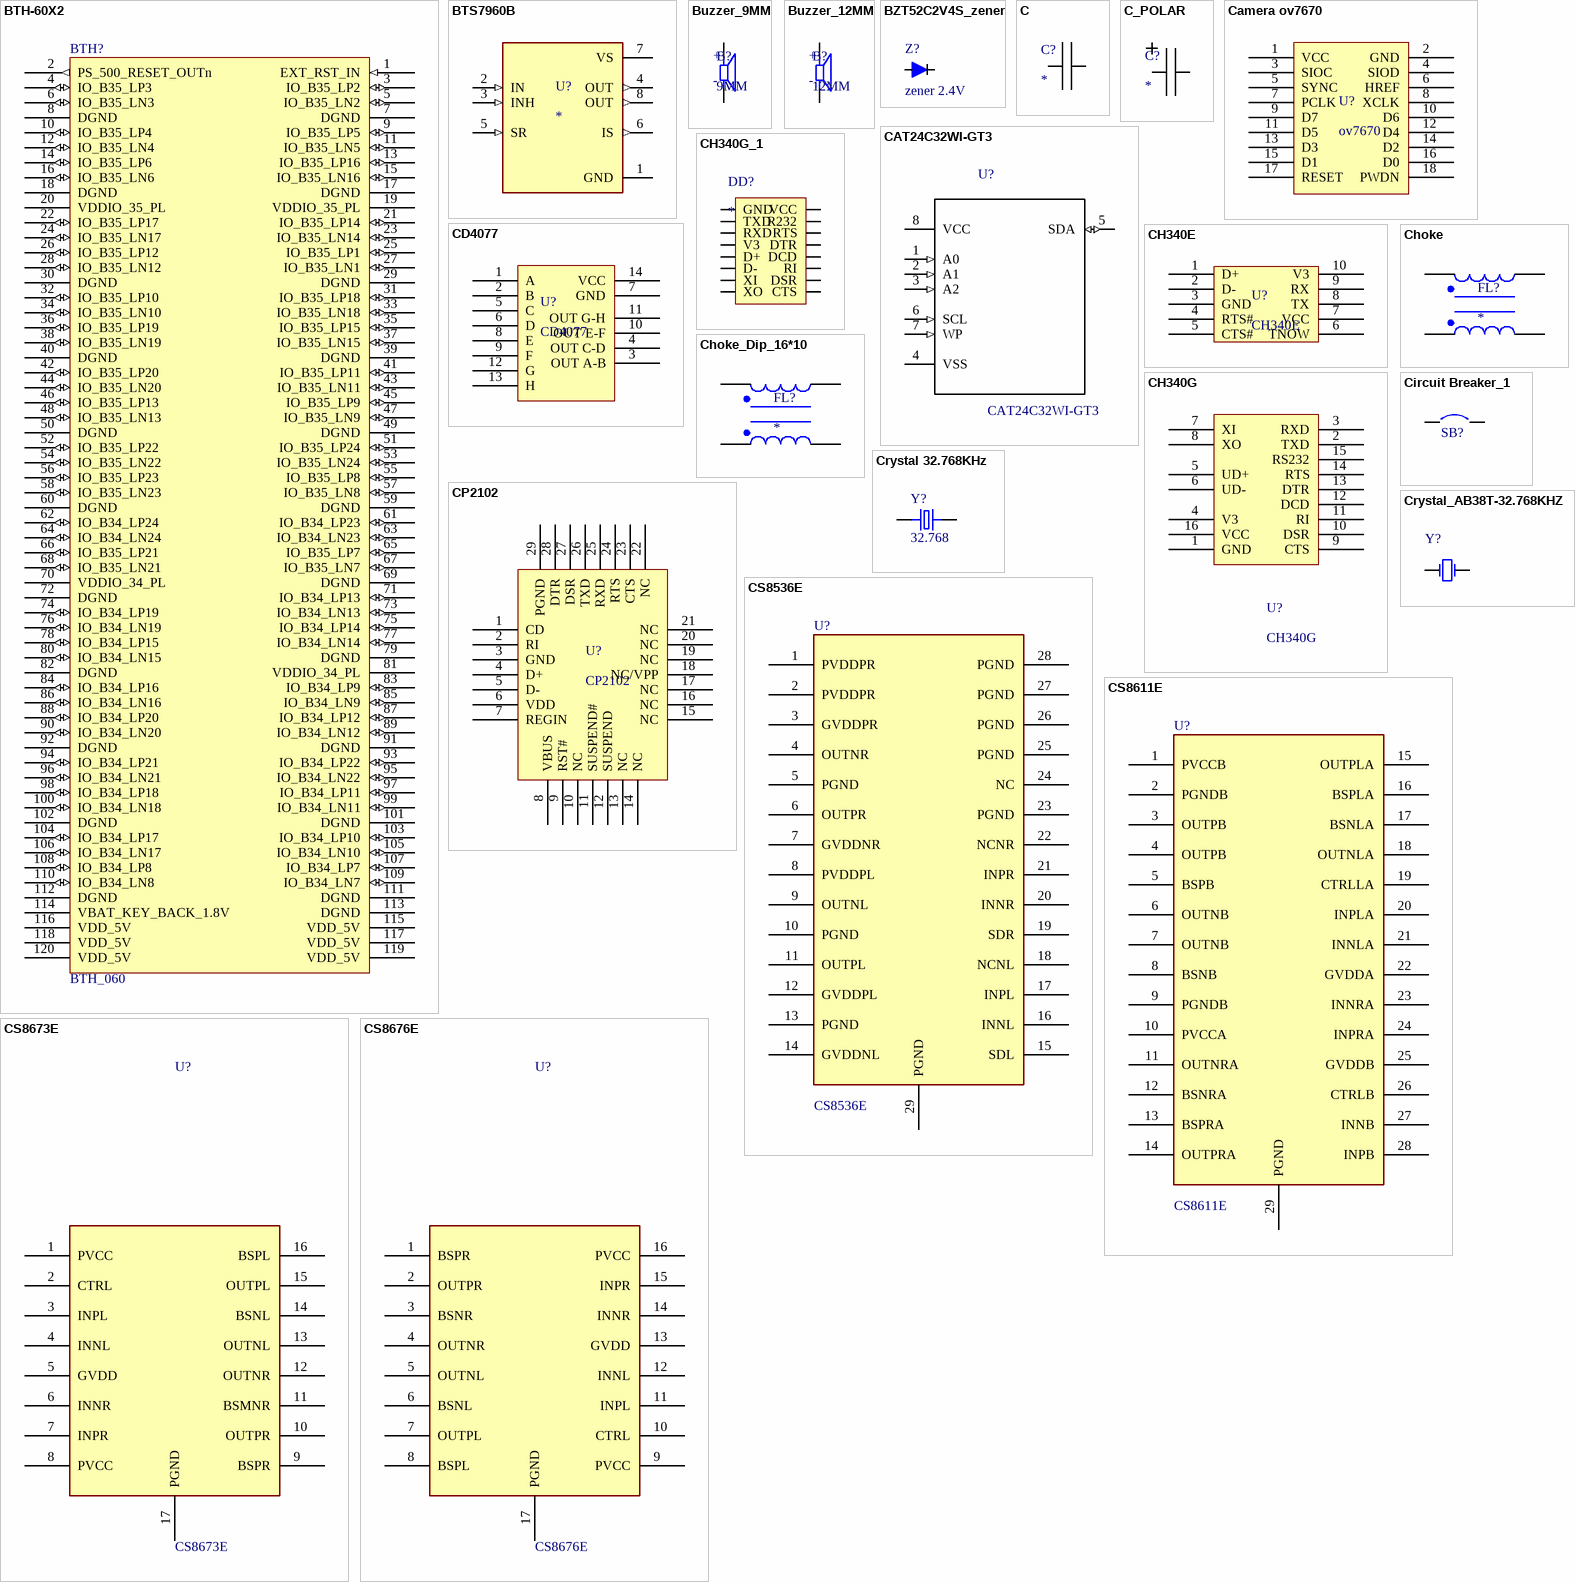
[diagram p2: symbols BTH-60X2 to CS8676E]

## BTH-60X2
designator BTH?, comment BTH_060
footprint BTH-060-XX-X-D-A
pins: 1 EXT_RST_IN (in), 2 PS_500_RESET_OUTn (out), 3 IO_B35_LP2 (io), 4 IO_B35_LP3 (io), 5 IO_B35_LN2 (io), 6 IO_B35_LN3 (io), 7 DGND (power), 8 DGND (power), 9 IO_B35_LP5 (io), 10 IO_B35_LP4 (io), 11 IO_B35_LN5 (io), 12 IO_B35_LN4 (io), 13 IO_B35_LP16 (io), 14 IO_B35_LP6 (io), 15 IO_B35_LN16 (io), 16 IO_B35_LN6 (io), 17 DGND (oe), 18 DGND (power), 19 VDDIO_35_PL (power), 20 VDDIO_35_PL (power), 21 IO_B35_LP14 (io), 22 IO_B35_LP17 (io), 23 IO_B35_LN14 (io), 24 IO_B35_LN17 (io), 25 IO_B35_LP1 (io), 26 IO_B35_LP12 (io), 27 IO_B35_LN1 (io), 28 IO_B35_LN12 (io), 29 DGND (oe), 30 DGND (power), 31 IO_B35_LP18 (io), 32 IO_B35_LP10 (io), 33 IO_B35_LN18 (io), 34 IO_B35_LN10 (io), 35 IO_B35_LP15 (io), 36 IO_B35_LP19 (io), 37 IO_B35_LN15 (io), 38 IO_B35_LN19 (io), 39 DGND (oe), 40 DGND (power), 41 IO_B35_LP11 (io), 42 IO_B35_LP20 (io), 43 IO_B35_LN11 (io), 44 IO_B35_LN20 (io), 45 IO_B35_LP9 (io), 46 IO_B35_LP13 (io), 47 IO_B35_LN9 (io), 48 IO_B35_LN13 (io), 49 DGND (oe), 50 DGND (power), 51 IO_B35_LP24 (io), 52 IO_B35_LP22 (io), 53 IO_B35_LN24 (io), 54 IO_B35_LN22 (io), 55 IO_B35_LP8 (io), 56 IO_B35_LP23 (io), 57 IO_B35_LN8 (io), 58 IO_B35_LN23 (io), 59 DGND (oe), 60 DGND (power), 61 IO_B34_LP23 (io), 62 IO_B34_LP24 (io), 63 IO_B34_LN23 (io), 64 IO_B34_LN24 (io), 65 IO_B35_LP7 (io), 66 IO_B35_LP21 (io), 67 IO_B35_LN7 (io), 68 IO_B35_LN21 (io), 69 DGND (oe), 70 VDDIO_34_PL (power), 71 IO_B34_LP13 (io), 72 DGND (power), 73 IO_B34_LN13 (io), 74 IO_B34_LP19 (io), 75 IO_B34_LP14 (io), 76 IO_B34_LN19 (io), 77 IO_B34_LN14 (io), 78 IO_B34_LP15 (io), 79 DGND (oe), 80 IO_B34_LN15 (io), 81 VDDIO_34_PL (oe), 82 DGND (power), 83 IO_B34_LP9 (io), 84 IO_B34_LP16 (io), 85 IO_B34_LN9 (io), 86 IO_B34_LN16 (io), 87 IO_B34_LP12 (io), 88 IO_B34_LP20 (io), 89 IO_B34_LN12 (io), 90 IO_B34_LN20 (io), 91 DGND (oe), 92 DGND (power), 93 IO_B34_LP22 (io), 94 IO_B34_LP21 (io), 95 IO_B34_LN22 (io), 96 IO_B34_LN21 (io), 97 IO_B34_LP11 (io), 98 IO_B34_LP18 (io), 99 IO_B34_LN11 (io), 100 IO_B34_LN18 (io), 101 DGND (oe), 102 DGND (power), 103 IO_B34_LP10 (io), 104 IO_B34_LP17 (io), 105 IO_B34_LN10 (io), 106 IO_B34_LN17 (io), 107 IO_B34_LP7 (io), 108 IO_B34_LP8 (io), 109 IO_B34_LN7 (io), 110 IO_B34_LN8 (io), 111 DGND (oe), 112 DGND (power), 113 DGND (oe), 114 VBAT_KEY_BACK_1.8V (power), 115 VDD_5V (oe), 116 VDD_5V (power), 117 VDD_5V (oe), 118 VDD_5V (power), 119 VDD_5V (oe), 120 VDD_5V (power)

## BTS7960B
designator U?
Half Bridge Driver DC Motors, General Purpose DMOS P-TO263-7; MF: Infineon; MP: BTS7960B; SnapEDA_Link: https://www.snapeda.com/parts/BTS7960B/Infineon%20Technologies/view-part/567474/?ref=snap; Price: None; Package: TO-263 Infineon; Value: *; Availability: Unavailable
footprint BTS7960B (High Current PN Half Bridge P-TO-263-7)
pins: 1 GND (power), 2 IN (in), 3 INH (in), 4 OUT (out), 5 SR (in), 6 IS (out), 7 VS (power), 8 OUT (out)

## Buzzer_9MM
designator B?, comment 9MM
09 mm, 5 V, 85 dB, Through Hole, Magnetic Audio Transducer Buzzer; MF: CUI Devices; MP: CEM-1203(42); Package: None; Price: None; Check_prices: https://www.snapeda.com/parts/CEM-1203(42)/CUI+Devices/view-part/?ref=eda; Value: *; CUI_purchase_URL: https://www.cuidevices.com/product/audio/buzzers/audio-transducers/cem-1203(42)?utm_source=snapeda.com&utm_medium=referral&utm_campaign=snapedaBOM; SnapEDA_Link: https://www.snapeda.com/parts/CEM-1203(42)/CUI+Devices/view-part/?ref=snap; Availability: In Stock; Purchase-URL: https://pricing.snapeda.com/search/part/CEM-1203(42)/?ref=eda
footprint Buzzer-TMB09A05 (Buzzer 9mm)
pins: N, P
text: +; -

## Buzzer_12MM
designator B?, comment 12MM
12 mm, 5 V, 85 dB, Through Hole, Magnetic Audio Transducer Buzzer; MF: CUI Devices; MP: CEM-1203(42); Package: None; Price: None; Check_prices: https://www.snapeda.com/parts/CEM-1203(42)/CUI+Devices/view-part/?ref=eda; Value: *; CUI_purchase_URL: https://www.cuidevices.com/product/audio/buzzers/audio-transducers/cem-1203(42)?utm_source=snapeda.com&utm_medium=referral&utm_campaign=snapedaBOM; SnapEDA_Link: https://www.snapeda.com/parts/CEM-1203(42)/CUI+Devices/view-part/?ref=snap; Availability: In Stock; Purchase-URL: https://pricing.snapeda.com/search/part/CEM-1203(42)/?ref=eda
footprint BUZZER_12MM
pins: N, P
text: +; -

## BZT52C2V4S_zener
designator Z?, comment zener 2.4V
Zener Diodes 2.4 volts; MP: EDZV12B; MF: ROHM Semiconductor; Price: None; Package: None; SnapEDA_Link: https://www.snapeda.com/parts/EDZV12B/EMI/view-part/4479349/?ref=snap; Availability: Unavailable; Value: *
footprint BZT52C2V4S_zener
pins: A, C

## C
designator C?
footprint 0805
pins: 1, 2

## C_POLAR
designator C?
footprint 4x5.4
pins: 1, 2

## Camera ov7670
designator U?, comment ov7670
camera
footprint Camera ov7670 (Connector; Header; 13x2 Position)
pins: 1 VCC, 2 GND, 3 SIOC, 4 SIOD, 5 SYNC, 6 HREF, 7 PCLK, 8 XCLK, 9 D7, 10 D6, 11 D5, 12 D4, 13 D3, 14 D2, 15 D1, 16 D0, 17 RESET, 18 PWDN

## CAT24C32WI-GT3
designator U?
32KB I2C SER EEPROM; MF: ON; Availability: Unavailable; Price: None; SnapEDA_Link: https://www.snapeda.com/parts/CAT24C32WI-GT3/ON%20Semiconductor/view-part/?ref=snap; MP: CAT24C32WI-GT3; Package: SOIC-8 ON; Value: *
footprint Cat24C32W
pins: 1 A0 (in), 2 A1 (in), 3 A2 (in), 4 VSS, 5 SDA (io), 6 SCL (in), 7 WP (in), 8 VCC (power)

## CD4077
designator U?
CMOS Quad  Exclusive-NOR Gate
footprint SOP-14
pins: 1 A, 2 B, 3 OUT A-B, 4 OUT C-D, 5 C, 6 D, 7 GND, 8 E, 9 F, 10 OUT E-F, 11 OUT G-H, 12 G, 13 H, 14 VCC

## CH340E
designator U?
TTL IC
footprint UMAX10 (Shrink Small Outline; 10 Leads; Body Width 3 mm; Pitch 0.5 mm)
footprint Model Name (Model Description)
pins: 1 D+, 2 D-, 3 GND, 4 RTS#, 5 CTS#, 6 TNOW, 7 VCC, 8 TX, 9 RX, 10 V3

## CH340G
designator U?
footprint CH340G
pins: 1 GND, 2 TXD, 3 RXD, 4 V3, 5 UD+, 6 UD-, 7 XI, 8 XO, 9 CTS, 10 DSR, 11 RI, 12 DCD, 13 DTR, 14 RTS, 15 RS232, 16 VCC

## CH340G_1
designator DD?
footprint CH340G
pins: 1 GND, 2 TXD, 3 RXD, 4 V3, 5 D+, 6 D-, 7 XI, 8 XO, 9 CTS, 10 DSR, 11 RI, 12 DCD, 13 DTR, 14 RTS, 15 R232, 16 VCC

## Choke
designator FL?
Line Common Mode Choke; MP: DLW5BTZ101TQ2L; MF: Murata; Availability: Warning; Package: None; Purchase-URL: https://pricing.snapeda.com/search/part/DLW5BTZ101TQ2L/?ref=eda; SnapEDA_Link: https://www.snapeda.com/parts/DLW5BTZ101TQ2L/Murata/view-part/1501550/?ref=snap; Price: None; Check_prices: https://www.snapeda.com/parts/DLW5BTZ101TQ2L/Murata/view-part/1501550/?ref=eda; Value: *
footprint CHOKE (SMD Common MODE Filter)
pins: 1, 2, 3, 4

## Choke_Dip_16*10
designator FL?
Line Common Mode Choke; MP: DLW5BTZ101TQ2L; MF: Murata; Availability: Warning; Package: None; Purchase-URL: https://pricing.snapeda.com/search/part/DLW5BTZ101TQ2L/?ref=eda; SnapEDA_Link: https://www.snapeda.com/parts/DLW5BTZ101TQ2L/Murata/view-part/1501550/?ref=snap; Price: None; Check_prices: https://www.snapeda.com/parts/DLW5BTZ101TQ2L/Murata/view-part/1501550/?ref=eda; Value: *
footprint CHOKE - Dip _ 16x10 (SMD Common MODE Filter ECMT1V1717S)
pins: 1, 2, 3, 4

## Circuit Breaker_1
designator SB?, comment Circuit Breaker  (value not drawn)
Solder: NO; Revision: July-2002: Re-released for DXP Platform.
footprint JP2_SMD
pins: 1, 2

## CP2102
designator U?
USB to USRT converter
footprint QFN28 (PQFN, 28-Leads, Body 5.00x5.00mm, Pitch 0.50mm, Thermal Pad 3.24x3.24mm, IPC Medium Density)
pins: 1 CD, 2 RI, 3 GND, 4 D+, 5 D-, 6 VDD, 7 REGIN, 8 VBUS, 9 RST#, 10 NC, 11 SUSPEND#, 12 SUSPEND, 13 NC, 14 NC, 15 NC, 16 NC, 17 NC, 18 NC/VPP, 19 NC, 20 NC, 21 NC, 22 NC, 23 CTS, 24 RTS, 25 RXD, 26 TXD, 27 DSR, 28 DTR, 29 PGND

## Crystal 32.768KHz
designator Y?, comment 32.768
32.768 KHz Dip ±20ppm 12.5pf; MP: ECS-130-20-3X-TR; MF: ECS Inc.; Value: *; SnapEDA_Link: https://www.snapeda.com/parts/ECS-130-20-3X-TR/ECS%20Inc./view-part/2459108/?ref=snap; Check_prices: https://www.snapeda.com/parts/ECS-130-20-3X-TR/ECS%20Inc./view-part/2459108/?ref=eda; Purchase-URL: https://pricing.snapeda.com/search/part/ECS-130-20-3X-TR/?ref=eda; Availability: Warning; Price: None; Package: HC49/US ECS International
footprint Crystal_32768
pins: 1, 2

## Crystal_AB38T-32.768KHZ
designator Y?  (value not drawn)
MF: ECS International; MP: ECS-320-18-5PXEN-TR; Availability: Unavailable; Price: None; Package: None; SnapEDA_Link: https://www.snapeda.com/parts/ECS-320-18-5PXEN-TR/ECS%20International/view-part/?ref=snap; Value: *
footprint Crystal_AB38T-32.768KHZ (XTAL_AB38T-32.768KHZ)
pins: 1 OSC1, 2 OSC2

## CS8536E
designator U?
AB/D 2X27W; Manufacturer_Name: Chipstar; Height: 2.47mm; Manufacturer_Part_Number: CS8536E; Arrow Part Number: CS8536E; Arrow Price/Stock: https://www.arrow.com/en/products/tda7491hv13tr/stmicroelectronics; Mouser Part Number: 511-TDA7491HV13TR; Mouser Price/Stock: https://www.mouser.com/Search/Refine.aspx?Keyword=511-TDA7491HV13TR
footprint CS8536E (EQA28)
pins: 1 PVDDPR, 2 PVDDPR, 3 GVDDPR, 4 OUTNR, 5 PGND, 6 OUTPR, 7 GVDDNR, 8 PVDDPL, 9 OUTNL, 10 PGND, 11 OUTPL, 12 GVDDPL, 13 PGND, 14 GVDDNL, 15 SDL, 16 INNL, 17 INPL, 18 NCNL, 19 SDR, 20 INNR, 21 INPR, 22 NCNR, 23 PGND, 24 NC, 25 PGND, 26 PGND, 27 PGND, 28 PGND, 29 PGND

## CS8611E
designator U?
2*15W+30W; Height: 2.47mm
footprint CS8611E
pins: 1 PVCCB, 2 PGNDB, 3 OUTPB, 4 OUTPB, 5 BSPB, 6 OUTNB, 7 OUTNB, 8 BSNB, 9 PGNDB, 10 PVCCA, 11 OUTNRA, 12 BSNRA, 13 BSPRA, 14 OUTPRA, 15 OUTPLA, 16 BSPLA, 17 BSNLA, 18 OUTNLA, 19 CTRLLA, 20 INPLA, 21 INNLA, 22 GVDDA, 23 INNRA, 24 INPRA, 25 GVDDB, 26 CTRLB, 27 INNB, 28 INPB, 29 PGND

## CS8673E
designator U?
AB/D 2X40W BTL & 80W PBTL ESOP16; Manufacturer_Name: Chipstar; Manufacturer_Part_Number: CS8679E; Height: 2.47mm; Arrow Part Number: CS8679E; Arrow Price/Stock: https://www.arrow.com/en/products/tda7491hv13tr/stmicroelectronics; Mouser Part Number: 511-TDA7491HV13TR; Mouser Price/Stock: https://www.mouser.com/Search/Refine.aspx?Keyword=511-TDA7491HV13TR
footprint CS8673E (ESOP16)
pins: 1 PVCC, 2 CTRL, 3 INPL, 4 INNL, 5 GVDD, 6 INNR, 7 INPR, 8 PVCC, 9 BSPR, 10 OUTPR, 11 BSMNR, 12 OUTNR, 13 OUTNL, 14 BSNL, 15 OUTPL, 16 BSPL, 17 PGND

## CS8676E
designator U?
AB/D 2X33W BTL & 68W PBTL ESOP16; Manufacturer_Name: Chipstar; Manufacturer_Part_Number: CS8679E; Height: 2.47mm; Arrow Part Number: CS8679E; Arrow Price/Stock: https://www.arrow.com/en/products/tda7491hv13tr/stmicroelectronics; Mouser Part Number: 511-TDA7491HV13TR; Mouser Price/Stock: https://www.mouser.com/Search/Refine.aspx?Keyword=511-TDA7491HV13TR
footprint CS8676 (ESOP16)
pins: 1 BSPR, 2 OUTPR, 3 BSNR, 4 OUTNR, 5 OUTNL, 6 BSNL, 7 OUTPL, 8 BSPL, 9 PVCC, 10 CTRL, 11 INPL, 12 INNL, 13 GVDD, 14 INNR, 15 INPR, 16 PVCC, 17 PGND

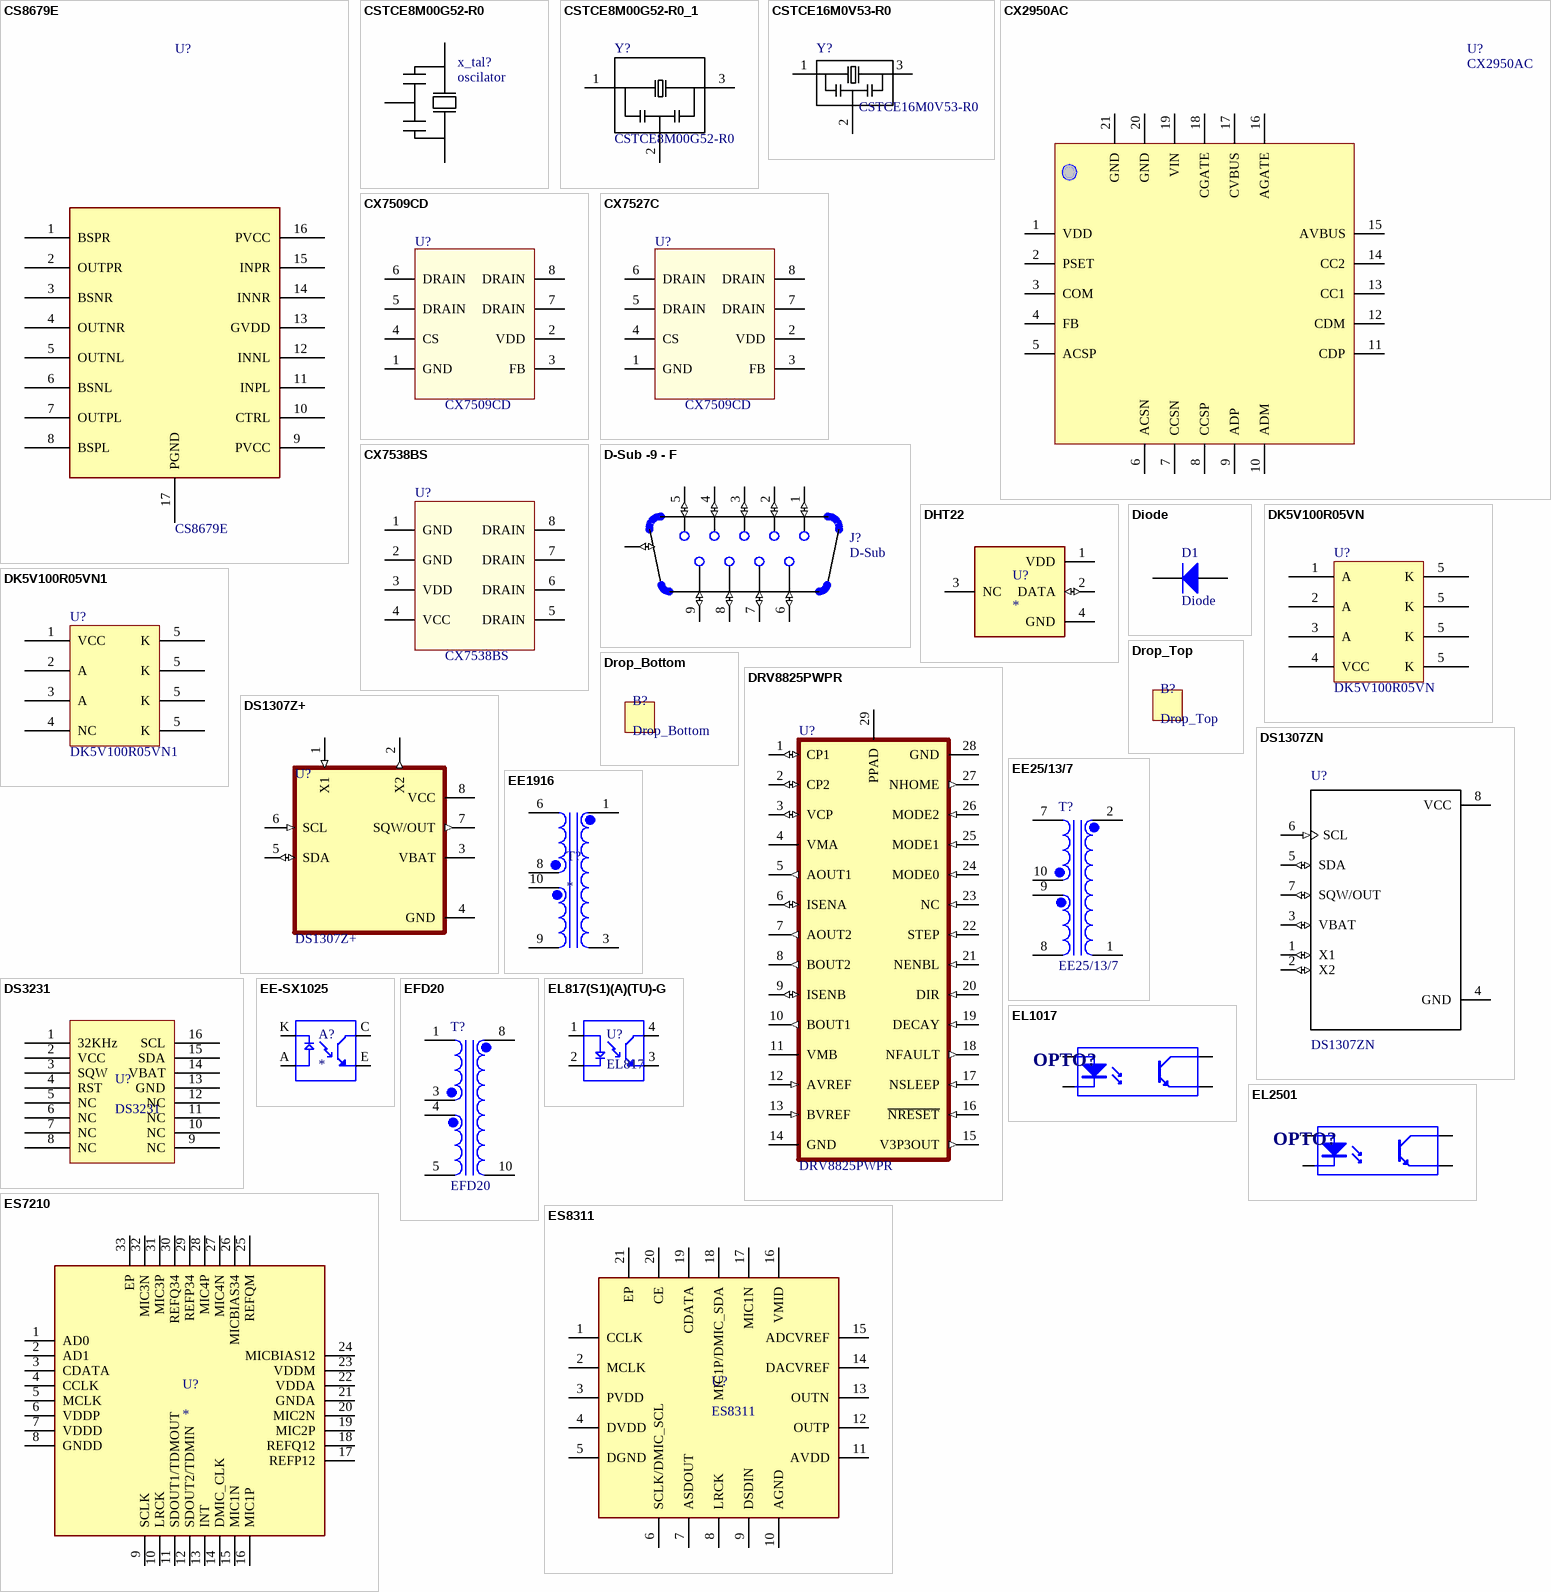
[diagram p3: symbols CS8679E to ES8311]

## CS8679E
designator U?
AB/D 2X28W BTL & 50W PBTL; Manufacturer_Name: Chipstar; Height: 2.47mm; Manufacturer_Part_Number: CS8679E; Arrow Part Number: CS8679E; Arrow Price/Stock: https://www.arrow.com/en/products/tda7491hv13tr/stmicroelectronics; Mouser Part Number: 511-TDA7491HV13TR; Mouser Price/Stock: https://www.mouser.com/Search/Refine.aspx?Keyword=511-TDA7491HV13TR
footprint CS8679 (EQA16)
pins: 1 BSPR, 2 OUTPR, 3 BSNR, 4 OUTNR, 5 OUTNL, 6 BSNL, 7 OUTPL, 8 BSPL, 9 PVCC, 10 CTRL, 11 INPL, 12 INNL, 13 GVDD, 14 INNR, 15 INPR, 16 PVCC, 17 PGND

## CSTCE8M00G52-R0
designator x_tal?, comment oscilator
Imported; Manufacturer_Part_Number: CSTCE8M00G52-R0; Vendor: Murata; C: Copyright (C) 2016 Accelerated Designs. All rights reserved; Copyright: Copyright (C) 2016 Accelerated Designs. All rights reserved; Value: Value
footprint CSTCE
pins: 1, 2, 3

## CSTCE8M00G52-R0_1
designator Y?, comment CSTCE8M00G52-R0
CSTCE Series 8 MHz 3.2 x 1.3 x 0.7 mm Built-in Capacitor SMT Resonator; MF: Murata; Availability: Unavailable; Price: None; Package: 1206 Murata; SnapEDA_Link: https://www.snapeda.com/parts/CSTCE8M00G52-R0/Murata%20Electronics%20North%20America/view-part/?ref=snap; MP: CSTCE8M00G52-R0; Value: *
footprint *OSC_CSTCE8M00G52-R0
pins: 1, 2 (power), 3

## CSTCE16M0V53-R0
designator Y?
Ceramic Resonator 16MHz ??0.5% _Tol_ ??0.3% _Stability_ 15pF 40Ohm 3-Pin CSMD T/R; MF: Murata; MP: CSTCE16M0V53-R0; Availability: Unavailable; Package: SMD-3 Murata; Price: None; SnapEDA_Link: https://www.snapeda.com/parts/CSTCE16M0V53-R0/Murata%20Electronics%20North%20America/view-part/?ref=snap; Value: *
footprint CSTCE
pins: 1, 2 (power), 3

## CX2950AC
designator U?
PD 18W & 27W
footprint CX2950AC (QFN20_4X4)
pins: 1 VDD, 2 PSET, 3 COM, 4 FB, 5 ACSP, 6 ACSN, 7 CCSN, 8 CCSP, 9 ADP, 10 ADM, 11 CDP, 12 CDM, 13 CC1, 14 CC2, 15 AVBUS, 16 AGATE, 17 CVBUS, 18 CGATE, 19 VIN, 20 GND, 21 GND

## CX7509CD
designator U?
PWM Controller of High-performance CX7509CD SOP8; MF: Toshiba Semiconductor; MP: TPHR8504PL,L1Q; Package: SOP-8 Toshiba; Price: None; Value: *; SnapEDA_Link: https://www.snapeda.com/parts/TPHR8504PL,L1Q/Toshiba%20Semiconductor%20and%20Storage/view-part/604439/?ref=snap; Availability: Unavailable
footprint CX7509CD (SOP8)
pins: 1 GND, 2 VDD (power), 3 FB (power), 4 CS, 5 DRAIN, 6 DRAIN, 7 DRAIN, 8 DRAIN

## CX7527C
designator U?, comment CX7509CD
PWM Controller of High-performance CX7527CD SOP8; MF: Toshiba Semiconductor; MP: TPHR8504PL,L1Q; Package: SOP-8 Toshiba; Price: None; Value: *; SnapEDA_Link: https://www.snapeda.com/parts/TPHR8504PL,L1Q/Toshiba%20Semiconductor%20and%20Storage/view-part/604439/?ref=snap; Availability: Unavailable
footprint CX7527C (SOP8)
pins: 1 GND, 2 VDD (power), 3 FB (power), 4 CS, 5 DRAIN, 6 DRAIN, 7 DRAIN, 8 DRAIN

## CX7538BS
designator U?
High-Performance / Switching Power Supply / Secondary Synchronous Rectifier IC; MF: Toshiba Semiconductor; MP: TPHR8504PL,L1Q; Package: SOP-8 Toshiba; Price: None; Value: *; SnapEDA_Link: https://www.snapeda.com/parts/TPHR8504PL,L1Q/Toshiba%20Semiconductor%20and%20Storage/view-part/604439/?ref=snap; Availability: Unavailable
footprint CX7538BS (SOP8)
pins: 1 GND, 2 GND (power), 3 VDD (power), 4 VCC, 5 DRAIN, 6 DRAIN, 7 DRAIN, 8 DRAIN

## D-Sub -9 - F
designator J?, comment D-Sub
10.3mm 9 way 90deg D-sub PCB Socket; MP: 618009231321; MF: WÃ¼rth Elektronik; Availability: Unavailable; Package: None; SnapEDA_Link: https://www.snapeda.com/parts/618009231321/W%C3%BCrth%20Elektronik/view-part/?ref=snap; Price: None; Value: *
footprint *618009231321_618009231321(Primary)
pins: 1 (io), 2 (io), 3 (io), 4 (io), 5 (io), 6 (io), 7 (io), 8 (io), 9 (io), SHELL SHIELD (io), SHELL1 SHIELD (io)

## DHT22
designator U?
MP: DHT22; Package: None; Price: None; Value: *; Availability: Unavailable
footprint DHT22_Right
footprint DHT22_Vertical
pins: 1 VDD (power), 2 DATA (io), 3 NC, 4 GND (power)

## Diode
designator D1
Default Diode; Published: 8-Jun-2000; LatestRevisionDate: 17-Jul-2002; LatestRevisionNote: Re-released for DXP Platform.; PackageVersion: Sep-1996; PackageReference: SMC; Publisher: Altium Limited; PackageDescription: DO-214-AB/SMC; 2 C-Bend Leads; Body 7.9 x 5.9 mm, inc. leads (LxW); Code_JEDEC: DO-214-AB
footprint Diode (JEDEC DO-214 variation AC. SMA)
pins: 1 A, 2 K

## DK5V100R05VN
designator U?
footprint DK5V100R05VN (DFN5*6)
pins: 1 A, 2 A, 3 A, 4 VCC, 5 K, 5 K, 5 K, 5 K

## DK5V100R05VN1
designator U?
footprint DK5V100R05VN1 (DFN5*6)
pins: 1 VCC, 2 A, 3 A, 4 NC, 5 K, 5 K, 5 K, 5 K

## Drop_Bottom
designator B?
footprint Drop_Bottom

## Drop_Top
designator B?
footprint Drop_Top

## DRV8825PWPR
designator U?
45-V, 2.5-A bipolar stepper motor driver with current regulation and 1/32 microstepping 28-HTSSOP -40 to 85; MF: Texas Instruments; Package: HTSSOP-28 Texas Instruments; SnapEDA_Link: https://www.snapeda.com/parts/DRV8825PWPR/Texas%20Instruments/view-part/448611/?ref=snap; Digi-Key_Part_Number: 296-29503-1-ND; MP: DRV8825PWPR; Mouser-Purchase-URL: https://snapeda.com/shop?store=Mouser&id=448611; Value: *; Texas_Instruments-Purchase-URL: https://snapeda.com/shop?store=Texas+Instruments&id=448611; Arrow_Electronics-Purchase-URL: https://snapeda.com/shop?store=Arrow+Electronics&id=448611
footprint DRV8825PWPR (HTSSOP-28)
pins: 1 CP1 (io), 2 CP2 (io), 3 VCP (io), 4 VMA (power), 5 AOUT1 (out), 6 ISENA (io), 7 AOUT2 (out), 8 BOUT2 (out), 9 ISENB (io), 10 BOUT1 (out), 11 VMB (power), 12 AVREF (in), 13 BVREF (in), 14 GND (power), 15 V3P3OUT (out), 16 ~{NRESET} (in), 17 NSLEEP (in), 18 NFAULT (out), 19 DECAY (in), 20 DIR (in), 21 NENBL (in), 22 STEP (in), 23 NC (in), 24 MODE0 (in), 25 MODE1 (in), 26 MODE2 (in), 27 NHOME (out), 28 GND (power), 29 PPAD (power)

## DS1307Z+
designator U?
Real Time Clock _RTC_ IC Clock/Calendar 56B IÂ²C, 2-Wire Serial 8-SOIC _0.154, 3.90mm Width_; MF: Maxim Integrated; Availability: Unavailable; SnapEDA_Link: https://www.snapeda.com/parts/DS1307Z/Maxim%20Integrated/view-part/524266/?ref=snap; Price: None; Package: SO-8 Maxim Integrated; MP: DS1307Z; Value: *
footprint DS1307
pins: 1 X1 (in), 2 X2 (out), 3 VBAT (power), 4 GND (power), 5 SDA (io), 6 SCL (in), 7 SQW/OUT (out), 8 VCC (power)

## DS1307ZN
designator U?
Real Time Clock Serial 56Byte 8-Pin SOIC N; MF: Maxim Integrated; Availability: Unavailable; MP: DS1307ZN; Package: SO-8 Maxim Integrated; SnapEDA_Link: https://www.snapeda.com/parts/DS1307ZN/Maxim%20Integrated/view-part/?ref=snap; Price: None; Value: *
footprint DS1307
pins: 1 X1 (io), 2 X2 (io), 3 VBAT (io), 4 GND (power), 5 SDA (io), 6 SCL (in), 7 SQW/OUT (io), 8 VCC (power)

## DS3231
designator U?
RTC
footprint 16SO.300_N (16-Pin Small Outline Integrated Circuit 1.27 mm Pitch, IPC Medium Density)
pins: 1 32KHz, 2 VCC, 3 SQW, 4 RST, 5 NC, 6 NC, 7 NC, 8 NC, 9 NC, 10 NC, 11 NC, 12 NC, 13 GND, 14 VBAT, 15 SDA, 16 SCL

## EE25/13/7
designator T?
EE25/13/7 WITHOUT GAP; MP: 14A-10R-16; Package: None; Price: None; Value: *; Availability: Unavailable
footprint EFD20
pins: 1, 2, 7, 8, 9, 10

## EE1916
designator T?
EE1916 WITHOUT GAP; MP: 14A-10R-16; Package: None; Price: None; Value: *; Availability: Unavailable
footprint EE1916
pins: 1, 2, 3, 4, 6, 8, 9, 10

## EE-SX1025
designator A?
Photointerrupter Transmissive 2.8mm Photologic, Open Collector 4-Pin; MF: Omron; MP: EESX1025; Value: *; Package: PCB Mount Omron; Check_prices: https://www.snapeda.com/parts/EESX1025/Omron/view-part/4303682/?ref=eda; Price: None; Availability: Warning; SnapEDA_Link: https://www.snapeda.com/parts/EESX1025/Omron/view-part/4303682/?ref=snap
footprint Photointerrupte XDCR_EE-SX1025
pins: A, C, E, K

## EFD20
designator T?
EE1916 WITHOUT GAP; MP: 14A-10R-16; Package: None; Price: None; Value: *; Availability: Unavailable
footprint EFD20
pins: 1, 3, 4, 5, 7, 8, 9, 10

## EL817(S1)(A)(TU)-G
designator U?, comment EL817
Optoisoltr 5kv Transistor 4-Smd; MP: EL817(S1)(A)(TU)-G; Package: None; Price: None; Value: *; Availability: Unavailable
footprint EL817
pins: 1 A, 2 C, 3 ET, 4 CT

## EL1017
designator OPTO?
4 PIN DIP PHOTOTRANSISTOR / PHOTOCOUPLER; Published: 24-Mar-1999; Revision: July-2002: Re-released for DXP Platform.; Publisher: Altium Limited
footprint EL1017 (SOP-4-P2.54-Long)
pins: 1 A, 2 K, 3 E, 4 C
2 alternate drawings of the same symbol

## EL2501
designator OPTO?
4 PIN DIP PHOTOTRANSISTOR / PHOTOCOUPLER; Published: 24-Mar-1999; Revision: July-2002: Re-released for DXP Platform.; Publisher: Altium Limited
footprint EL2501 (4 PIN DIP PHOTOTRANSISTOR  PHOTOCOUPLER  DIP-4)
pins: 1 A, 2 K, 3 E, 4 C
2 alternate drawings of the same symbol

## ES7210
designator U?
High Performance Four Channels Audio ADC
pins: 1 AD0, 2 AD1, 3 CDATA, 4 CCLK, 5 MCLK, 6 VDDP, 7 VDDD, 8 GNDD, 9 SCLK, 10 LRCK, 11 SDOUT1/TDMOUT, 12 SDOUT2/TDMIN, 13 INT, 14 DMIC_CLK, 15 MIC1N, 16 MIC1P, 17 REFP12, 18 REFQ12, 19 MIC2P, 20 MIC2N, 21 GNDA, 22 VDDA, 23 VDDM, 24 MICBIAS12, 25 REFQM, 26 MICBIAS34, 27 MIC4N, 28 MIC4P, 29 REFP34, 30 REFQ34, 31 MIC3P, 32 MIC3N, 33 EP

## ES8311
designator U?
Low Power Mono Audio CODEC
pins: 1 CCLK, 2 MCLK, 3 PVDD, 4 DVDD, 5 DGND, 6 SCLK/DMIC_SCL, 7 ASDOUT, 8 LRCK, 9 DSDIN, 10 AGND, 11 AVDD, 12 OUTP, 13 OUTN, 14 DACVREF, 15 ADCVREF, 16 VMID, 17 MIC1N, 18 MIC1P/DMIC_SDA, 19 CDATA, 20 CE, 21 EP

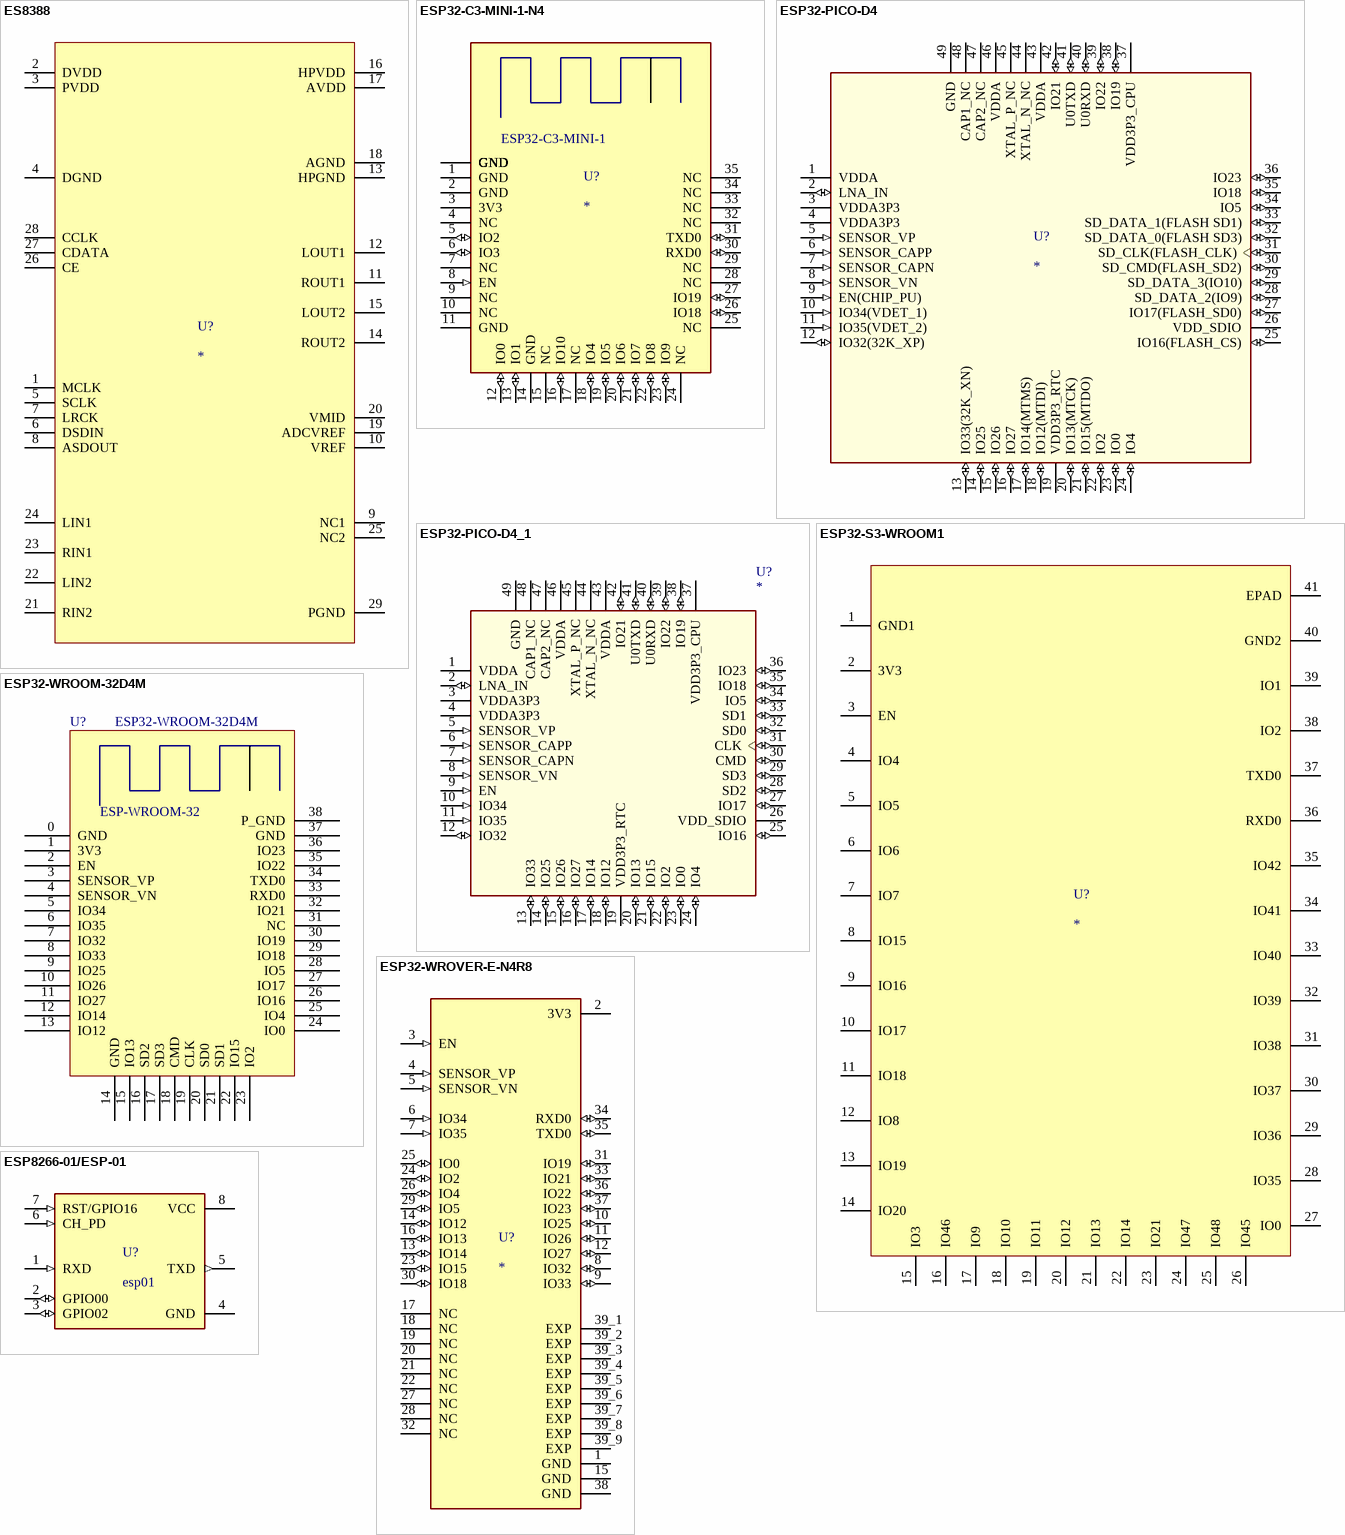
[diagram p4: symbols ES8388 to ESP8266-01/ESP-01]

## ES8388
designator U?
Low Power Stereo Audio CODEC With Headphone Amplifier
pins: 1 MCLK, 2 DVDD, 3 PVDD, 4 DGND, 5 SCLK, 6 DSDIN, 7 LRCK, 8 ASDOUT, 9 NC1, 10 VREF, 11 ROUT1, 12 LOUT1, 13 HPGND, 14 ROUT2, 15 LOUT2, 16 HPVDD, 17 AVDD, 18 AGND, 19 ADCVREF, 20 VMID, 21 RIN2, 22 LIN2, 23 RIN1, 24 LIN1, 25 NC2, 26 CE, 27 CDATA, 28 CCLK, 29 PGND

## ESP32-C3-MINI-1-N4
designator U?
MF: {'manufacturer': u'Espressif Systems'}; MP: ESP32-C3-MINI-1-N4; Package: None; Price: None; Value: *; Availability: Unavailable
footprint ESP32-C3-MINI-1
pins: 1 GND (power), 2 GND (power), 3 3V3 (power), 4 NC, 5 IO2 (io), 6 IO3 (io), 7 NC, 8 EN (in), 9 NC, 10 NC, 11 GND (power), 12 IO0 (io), 13 IO1 (io), 14 GND (power), 15 NC, 16 IO10 (io), 17 NC, 18 IO4 (io), 19 IO5 (io), 20 IO6 (io), 21 IO7 (io), 22 IO8 (io), 23 IO9 (io), 24 NC, 25 NC, 26 IO18 (io), 27 IO19 (io), 28 NC, 29 NC, 30 RXD0 (io), 31 TXD0 (io), 32 NC, 33 NC, 34 NC, 35 NC, 36 GND (power), 37 GND (power), 38 GND (power), 39 GND (power), 40 GND (power), 41 GND (power), 42 GND (power), 43 GND (power), 44 GND (power), 45 GND (power), 46 GND (power), 47 GND (power), 48 GND (power), 49_1 GND (power), 49_2 GND (power), 49_3 GND (power), 49_4 GND (power), 49_5 GND (power), 49_6 GND (power), 49_7 GND (power), 49_8 GND (power), 49_9 GND (power), 50 GND (power), 51 GND (power), 52 GND (power), 53 GND (power)
text: ESP32-C3-MINI-1

## ESP32-PICO-D4
designator U?
Bluetooth, WiFi 802.11b/g/n, Bluetooth v4.2 +EDR, Class 1, 2 and 3 Transceiver Module 2.4GHz ~ 2.5GHz Surface Mount; MP: ESP32-PICO-D4; MF: Espressif Systems; Package: SMD-48 Espressif Systems; Availability: Warning; Price: None; Purchase-URL: https://pricing.snapeda.com/search/part/ESP32-PICO-D4/?ref=eda; Check_prices: https://www.snapeda.com/parts/ESP32-PICO-D4/Espressif%20Systems/view-part/2762121/?ref=eda; SnapEDA_Link: https://www.snapeda.com/parts/ESP32-PICO-D4/Espressif%20Systems/view-part/2762121/?ref=snap; Value: *
footprint ESP32-PICO-D4
pins: 1 VDDA (power), 2 LNA_IN (io), 3 VDDA3P3 (power), 4 VDDA3P3 (power), 5 SENSOR_VP (in), 6 SENSOR_CAPP (in), 7 SENSOR_CAPN (in), 8 SENSOR_VN (in), 9 EN(CHIP_PU) (in), 10 IO34(VDET_1) (in), 11 IO35(VDET_2) (in), 12 IO32(32K_XP) (io), 13 IO33(32K_XN) (io), 14 IO25 (io), 15 IO26 (io), 16 IO27 (io), 17 IO14(MTMS) (io), 18 IO12(MTDI) (io), 19 VDD3P3_RTC (power), 20 IO13(MTCK) (io), 21 IO15(MTDO) (io), 22 IO2 (io), 23 IO0 (io), 24 IO4 (io), 25 IO16(FLASH_CS) (io), 26 VDD_SDIO (power), 27 IO17(FLASH_SD0) (io), 28 SD_DATA_2(IO9) (io), 29 SD_DATA_3(IO10) (io), 30 SD_CMD(FLASH_SD2) (io), 31 SD_CLK(FLASH_CLK) (io), 32 SD_DATA_0(FLASH SD3) (io), 33 SD_DATA_1(FLASH SD1) (io), 34 IO5 (io), 35 IO18 (io), 36 IO23 (io), 37 VDD3P3_CPU (power), 38 IO19 (io), 39 IO22 (io), 40 U0RXD (io), 41 U0TXD (io), 42 IO21 (io), 43 VDDA (power), 44 XTAL_N_NC, 45 XTAL_P_NC, 46 VDDA (power), 47 CAP2_NC, 48 CAP1_NC, 49 GND (power)

## ESP32-PICO-D4_1
designator U?
Bluetooth, WiFi 802.11b/g/n, Bluetooth v4.2 +EDR, Class 1, 2 and 3 Transceiver Module 2.4GHz ~ 2.5GHz Surface Mount; MP: ESP32-PICO-D4; MF: Espressif Systems; Package: SMD-48 Espressif Systems; Availability: Warning; Price: None; Purchase-URL: https://pricing.snapeda.com/search/part/ESP32-PICO-D4/?ref=eda; Check_prices: https://www.snapeda.com/parts/ESP32-PICO-D4/Espressif%20Systems/view-part/2762121/?ref=eda; SnapEDA_Link: https://www.snapeda.com/parts/ESP32-PICO-D4/Espressif%20Systems/view-part/2762121/?ref=snap; Value: *
footprint ESP32-PICO-D4
pins: 1 VDDA (power), 2 LNA_IN (io), 3 VDDA3P3 (power), 4 VDDA3P3 (power), 5 SENSOR_VP (in), 6 SENSOR_CAPP (in), 7 SENSOR_CAPN (in), 8 SENSOR_VN (in), 9 EN (in), 10 IO34 (in), 11 IO35 (in), 12 IO32 (io), 13 IO33 (io), 14 IO25 (io), 15 IO26 (io), 16 IO27 (io), 17 IO14 (io), 18 IO12 (io), 19 VDD3P3_RTC (power), 20 IO13 (io), 21 IO15 (io), 22 IO2 (io), 23 IO0 (io), 24 IO4 (io), 25 IO16 (io), 26 VDD_SDIO (power), 27 IO17 (io), 28 SD2 (io), 29 SD3 (io), 30 CMD (io), 31 CLK (io), 32 SD0 (io), 33 SD1 (io), 34 IO5 (io), 35 IO18 (io), 36 IO23 (io), 37 VDD3P3_CPU (power), 38 IO19 (io), 39 IO22 (io), 40 U0RXD (io), 41 U0TXD (io), 42 IO21 (io), 43 VDDA (power), 44 XTAL_N_NC, 45 XTAL_P_NC, 46 VDDA (power), 47 CAP2_NC, 48 CAP1_NC, 49 GND (power)

## ESP32-S3-WROOM1
designator U?
footprint ESP32-S3-WROOM1N16R8
pins: 1 GND1, 2 3V3, 3 EN, 4 IO4, 5 IO5, 6 IO6, 7 IO7, 8 IO15, 9 IO16, 10 IO17, 11 IO18, 12 IO8, 13 IO19, 14 IO20, 15 IO3, 16 IO46, 17 IO9, 18 IO10, 19 IO11, 20 IO12, 21 IO13, 22 IO14, 23 IO21, 24 IO47, 25 IO48, 26 IO45, 27 IO0, 28 IO35, 29 IO36, 30 IO37, 31 IO38, 32 IO39, 33 IO40, 34 IO41, 35 IO42, 36 RXD0, 37 TXD0, 38 IO2, 39 IO1, 40 GND2, 41 EPAD

## ESP32-WROOM-32D4M
designator U?
ESP32-WROOM-32D 4M
footprint ESP32-wroom
pins: 0 GND, 1 3V3, 2 EN, 3 SENSOR_VP, 4 SENSOR_VN, 5 IO34, 6 IO35, 7 IO32, 8 IO33, 9 IO25, 10 IO26, 11 IO27, 12 IO14, 13 IO12, 14 GND, 15 IO13, 16 SD2, 17 SD3, 18 CMD, 19 CLK, 20 SD0, 21 SD1, 22 IO15, 23 IO2, 24 IO0, 25 IO4, 26 IO16, 27 IO17, 28 IO5, 29 IO18, 30 IO19, 31 NC, 32 IO21, 33 RXD0, 34 TXD0, 35 IO22, 36 IO23, 37 GND, 38 P_GND
text: ESP-WROOM-32

## ESP32-WROVER-E-N4R8
designator U?
Bluetooth, WiFi 802.11b/g/n, Bluetooth v4.2 +EDR Transceiver Module 2.4GHz ~ 2.5GHz PCB Trace Surface Mount; MF: Espressif Systems; MP: ESP32WROVEREN4R8; SnapEDA_Link: https://www.snapeda.com/parts/ESP32WROVEREN4R8/Espressif+Systems/view-part/?ref=snap; Price: None; Check_prices: https://www.snapeda.com/parts/ESP32WROVEREN4R8/Espressif+Systems/view-part/?ref=eda; Value: *; Package: None; Availability: In Stock; Purchase-URL: https://pricing.snapeda.com/search/part/ESP32WROVEREN4R8/?ref=eda
footprint ESP32-WROVER-E-N4R8
pins: 1 GND (power), 2 3V3 (power), 3 EN (in), 4 SENSOR_VP (in), 5 SENSOR_VN (in), 6 IO34 (in), 7 IO35 (in), 8 IO32 (io), 9 IO33 (io), 10 IO25 (io), 11 IO26 (io), 12 IO27 (io), 13 IO14 (io), 14 IO12 (io), 15 GND (power), 16 IO13 (io), 17 NC, 18 NC, 19 NC, 20 NC, 21 NC, 22 NC, 23 IO15 (io), 24 IO2 (io), 25 IO0 (io), 26 IO4 (io), 27 NC, 28 NC, 29 IO5 (io), 30 IO18 (io), 31 IO19 (io), 32 NC, 33 IO21 (io), 34 RXD0 (io), 35 TXD0 (io), 36 IO22 (io), 37 IO23 (io), 38 GND (power), 39_1 EXP (power), 39_2 EXP (power), 39_3 EXP (power), 39_4 EXP (power), 39_5 EXP (power), 39_6 EXP (power), 39_7 EXP (power), 39_8 EXP (power), 39_9 EXP (power)

## ESP8266-01/ESP-01
designator U?, comment esp01
ESP-01 wifi module; MP: ESP8266-01/ESP-01; MF: AI-Thinker; Package: None; Availability: Unavailable; Value: *; SnapEDA_Link: https://www.snapeda.com/parts/ESP8266-01/ESP-01/AI-Thinker/view-part/106413/?ref=snap; Price: None
footprint ESP8266-01/ESP-01
pins: 1 RXD (in), 2 GPIO00 (io), 3 GPIO02 (io), 4 GND (power), 5 TXD (out), 6 CH_PD (in), 7 RST/GPIO16 (in), 8 VCC (power)

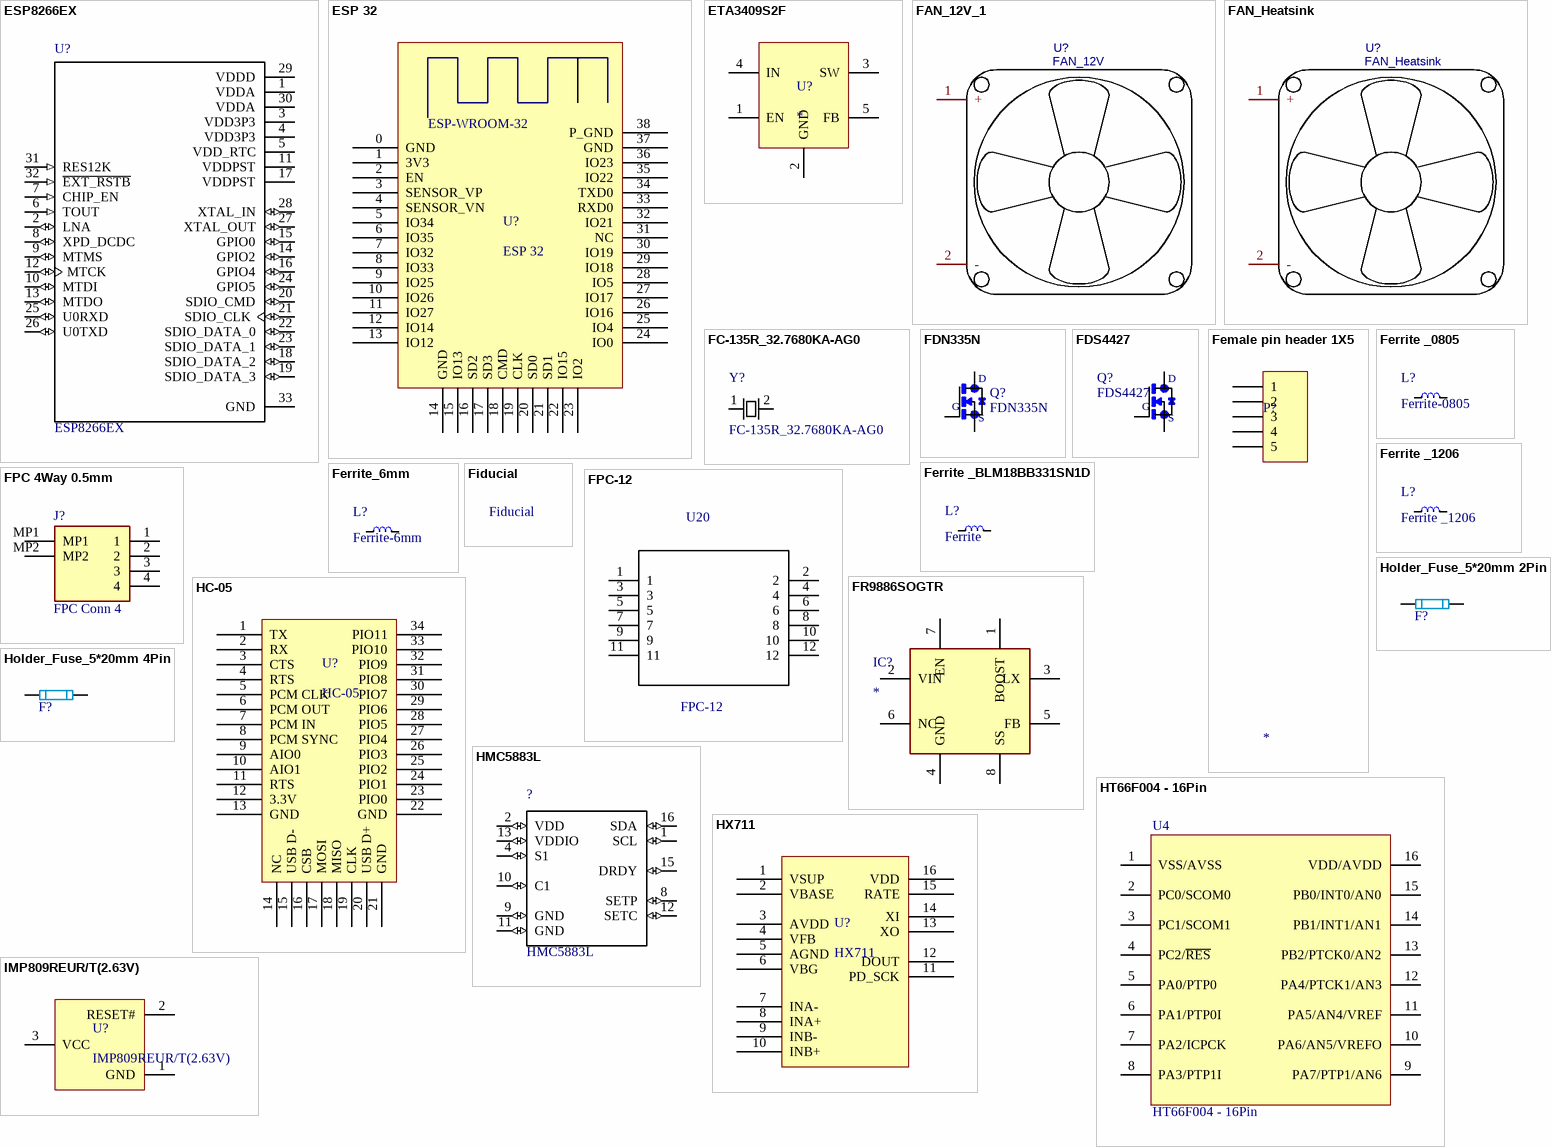
[diagram p5: symbols ESP8266EX to IMP809REUR/T(2.63V)]

## ESP8266EX
designator U?
IC RF TxRx + MCU WiFi 802.11b/g/n 2.4GHz 32-VFQFN Exposed Pad; MF: Espressif Systems; SnapEDA_Link: https://www.snapeda.com/parts/ESP8266EX/Espressif%20Systems/view-part/555861/?ref=snap; Price: None; MP: ESP8266EX; Availability: Unavailable; Package: VFQFN-32 Espressif Systems; Value: *
footprint esp82266
pins: 1 VDDA (power), 2 LNA (io), 3 VDD3P3 (power), 4 VDD3P3 (power), 5 VDD_RTC (power), 6 TOUT (in), 7 CHIP_EN (in), 8 XPD_DCDC (io), 9 MTMS (io), 10 MTDI (io), 11 VDDPST (power), 12 MTCK (io), 13 MTDO (io), 14 GPIO2 (io), 15 GPIO0 (io), 16 GPIO4 (io), 17 VDDPST (power), 18 SDIO_DATA_2 (io), 19 SDIO_DATA_3 (io), 20 SDIO_CMD (io), 21 SDIO_CLK (io), 22 SDIO_DATA_0 (io), 23 SDIO_DATA_1 (io), 24 GPIO5 (io), 25 U0RXD (io), 26 U0TXD (io), 27 XTAL_OUT (io), 28 XTAL_IN (io), 29 VDDD (power), 30 VDDA (power), 31 RES12K (in), 32 ~{EXT_RSTB} (in), 33 GND (power)